# Altium integrated library Renesas Microcontroller H8S.IntLib: 670 symbols (part 5 of 70)
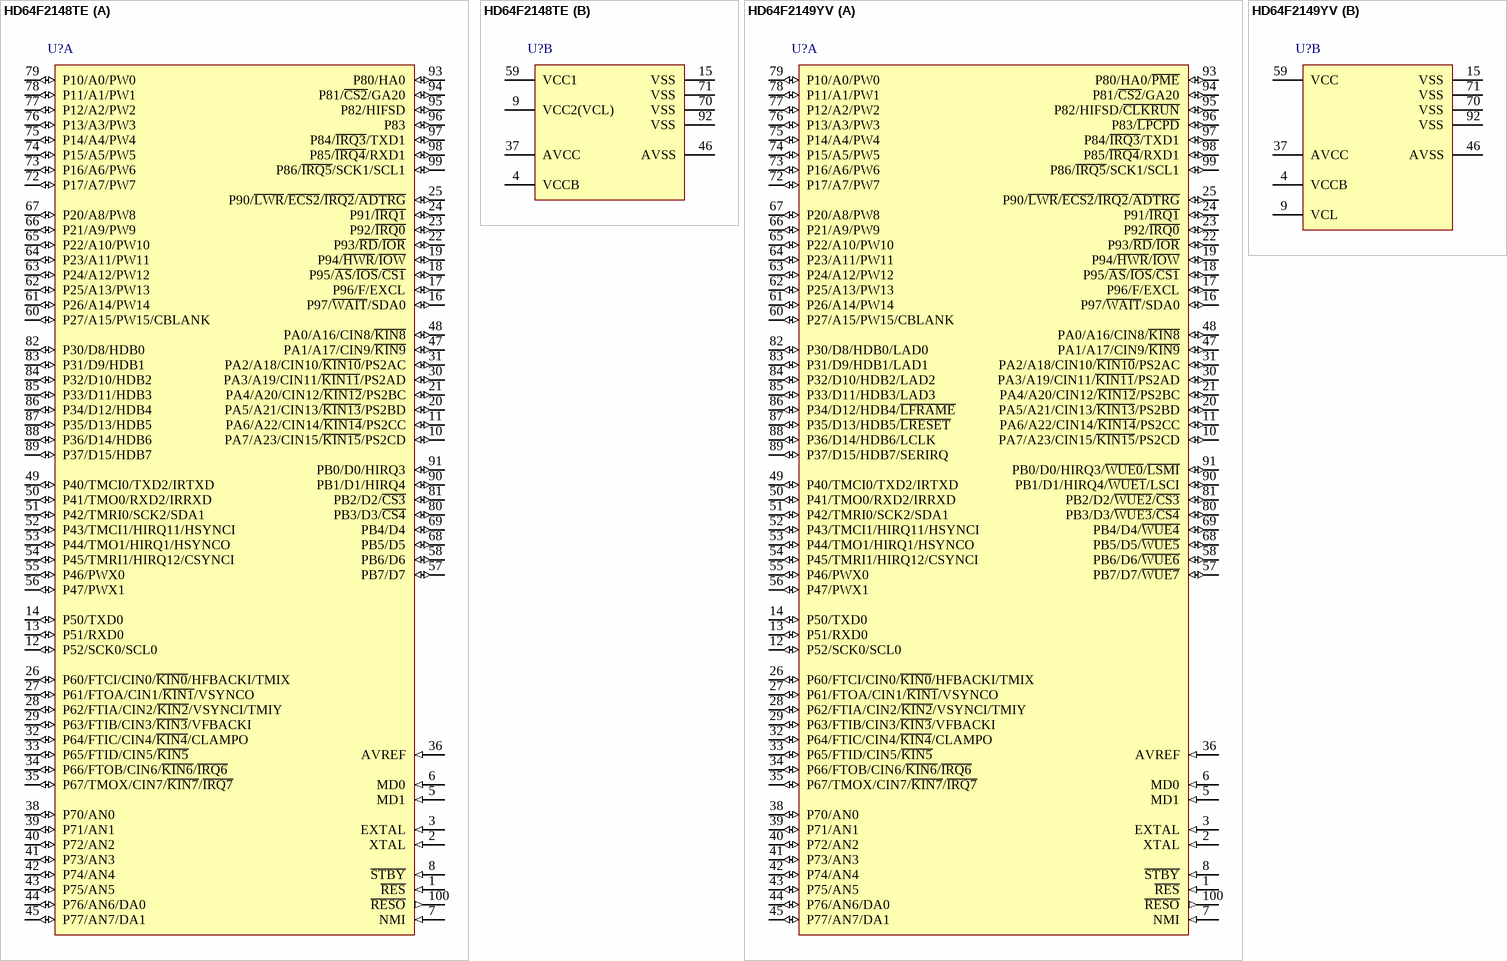
[diagram p247: symbols HD64F2148TE to HD64F2149YV]

## HD64F2148TE
designator U?
Flash memory H8S/2100 Series, 2148 Group MCU, 128K ROM, 4K RAM, TFP-100B Pkg; Published: 28-Aug-2009; DatasheetVersion: Rev.4.00, Sep-2006; PackageVersion: Sep-2005; PackageReference: PTQP0100KA-A; Publisher: Altium Limited; PackageDescription: 100-Pin Plastic Thin Quad Flat Pack, 14 x 14 x 1.0 mm Body, 0.5 mm Pitch; Code_JEITA: P-TQFP100-14x14-0.50; ComponentLink1Description: Manufacturer Link; ComponentLink1URL: http://sg.renesas.com/fmwk.jsp?cnt=h8s_family_landing.jsp&fp=/products/mpumcu/h8s_family/; ComponentLink2Description: Datasheet; ComponentLink2URL: http://documentation.renesas.com/eng/products/mpumcu/rej09b0327_2148hm.pdf; ComponentLink3Description: Packaging Specification; ComponentLink3URL: http://sg.renesas.com/media/products/common_info/package/pdf/ic/code/ptqp0100ka_a.pdf
footprint PTQP0100KA-A_N (Thin QFP, 100-Leads, Body 14x14mm, Pitch 0.5mm, IPC Medium Density)
footprint PTQP0100KA-A_L (Thin QFP, 100-Leads, Body 14x14mm, Pitch 0.5mm, IPC High Density)
footprint PTQP0100KA-A_M (Thin QFP, 100-Leads, Body 14x14mm, Pitch 0.5mm, IPC Low Density)
part A pins: 1 ~{RES} (in), 2 XTAL (in), 3 EXTAL (in), 5 MD1 (in), 6 MD0 (in), 7 NMI (in), 8 ~{STBY} (in), 10 PA7/A23/CIN15/~{KIN15}/PS2CD (io), 11 PA6/A22/CIN14/~{KIN14}/PS2CC (io), 12 P52/SCK0/SCL0 (io), 13 P51/RXD0 (io), 14 P50/TXD0 (io), 16 P97/~{WAIT}/SDA0 (io), 17 P96/F/EXCL (io), 18 P95/~{AS}/~{IOS}/~{CS1} (io), 19 P94/~{HWR}/~{IOW} (io), 20 PA5/A21/CIN13/~{KIN13}/PS2BD (io), 21 PA4/A20/CIN12/~{KIN12}/PS2BC (io), 22 P93/~{RD}/~{IOR} (io), 23 P92/~{IRQ0} (io), 24 P91/~{IRQ1} (io), 25 P90/~{LWR}/~{ECS2}/~{IRQ2}/~{ADTRG} (io), 26 P60/FTCI/CIN0/~{KIN0}/HFBACKI/TMIX (io), 27 P61/FTOA/CIN1/~{KIN1}/VSYNCO (io), 28 P62/FTIA/CIN2/~{KIN2}/VSYNCI/TMIY (io), 29 P63/FTIB/CIN3/~{KIN3}/VFBACKI (io), 30 PA3/A19/CIN11/~{KIN11}/PS2AD (io), 31 PA2/A18/CIN10/~{KIN10}/PS2AC (io), 32 P64/FTIC/CIN4/~{KIN4}/CLAMPO (io), 33 P65/FTID/CIN5/~{KIN5} (io), 34 P66/FTOB/CIN6/~{KIN6}/~{IRQ6} (io), 35 P67/TMOX/CIN7/~{KIN7}/~{IRQ7} (io), 36 AVREF (in), 38 P70/AN0 (io), 39 P71/AN1 (io), 40 P72/AN2 (io), 41 P73/AN3 (io), 42 P74/AN4 (io), 43 P75/AN5 (io), 44 P76/AN6/DA0 (io), 45 P77/AN7/DA1 (io), 47 PA1/A17/CIN9/~{KIN9} (io), 48 PA0/A16/CIN8/~{KIN8} (io), 49 P40/TMCI0/TXD2/IRTXD (io), 50 P41/TMO0/RXD2/IRRXD (io), 51 P42/TMRI0/SCK2/SDA1 (io), 52 P43/TMCI1/HIRQ11/HSYNCI (io), 53 P44/TMO1/HIRQ1/HSYNCO (io), 54 P45/TMRI1/HIRQ12/CSYNCI (io), 55 P46/PWX0 (io), 56 P47/PWX1 (io), 57 PB7/D7 (io), 58 PB6/D6 (io), 60 P27/A15/PW15/CBLANK (io), 61 P26/A14/PW14 (io), 62 P25/A13/PW13 (io), 63 P24/A12/PW12 (io), 64 P23/A11/PW11 (io), 65 P22/A10/PW10 (io), 66 P21/A9/PW9 (io), 67 P20/A8/PW8 (io), 68 PB5/D5 (io), 69 PB4/D4 (io), 72 P17/A7/PW7 (io), 73 P16/A6/PW6 (io), 74 P15/A5/PW5 (io), 75 P14/A4/PW4 (io), 76 P13/A3/PW3 (io), 77 P12/A2/PW2 (io), 78 P11/A1/PW1 (io), 79 P10/A0/PW0 (io), 80 PB3/D3/~{CS4} (io), 81 PB2/D2/~{CS3} (io), 82 P30/D8/HDB0 (io), 83 P31/D9/HDB1 (io), 84 P32/D10/HDB2 (io), 85 P33/D11/HDB3 (io), 86 P34/D12/HDB4 (io), 87 P35/D13/HDB5 (io), 88 P36/D14/HDB6 (io), 89 P37/D15/HDB7 (io), 90 PB1/D1/HIRQ4 (io), 91 PB0/D0/HIRQ3 (io), 93 P80/HA0 (io), 94 P81/~{CS2}/GA20 (io), 95 P82/HIFSD (io), 96 P83 (io), 97 P84/~{IRQ3}/TXD1 (io), 98 P85/~{IRQ4}/RXD1 (io), 99 P86/~{IRQ5}/SCK1/SCL1 (io), 100 ~{RESO} (out)
part B pins: 4 VCCB (power), 9 VCC2(VCL), 15 VSS (power), 37 AVCC (power), 46 AVSS (power), 59 VCC1 (power), 70 VSS (power), 71 VSS (power), 92 VSS (power)

## HD64F2149YV
designator U?
Flash memory H8S/2100 Series, 2149 Group MCU, 64K ROM, 2K RAM, FP-100B Pkg; Published: 28-Aug-2009; DatasheetVersion: Rev.3.00, Jan-2006; PackageVersion: Sep-2009; PackageReference: PRQP0100KA-A; Publisher: Altium Limited; PackageDescription: 100-Pin Plastic Quad Flat Pack, 14 x 14 x 2.7 mm Body, 0.5 mm Pitch; Code_JEITA: P-QFP100-14x14-0.50; ComponentLink1Description: Manufacturer Link; ComponentLink1URL: http://sg.renesas.com/fmwk.jsp?cnt=h8s_family_landing.jsp&fp=/products/mpumcu/h8s_family/; ComponentLink2Description: Datasheet; ComponentLink2URL: http://documentation.renesas.com/eng/products/mpumcu/rej09b0280_2169fhm.pdf; ComponentLink3Description: Packaging Specification; ComponentLink3URL: http://sg.renesas.com/media/products/common_info/package/pdf/ic/code/prqp0100ka_a.pdf
footprint PRQP0100KA-A_N (Shrink QFP, 100-Leads, Body 14x14mm, Pitch 0.5mm, IPC Medium Density)
footprint PRQP0100KA-A_L (Shrink QFP, 100-Leads, Body 14x14mm, Pitch 0.5mm, IPC High Density)
footprint PRQP0100KA-A_M (Shrink QFP, 100-Leads, Body 14x14mm, Pitch 0.5mm, IPC Low Density)
part A pins: 1 ~{RES} (in), 2 XTAL (in), 3 EXTAL (in), 5 MD1 (in), 6 MD0 (in), 7 NMI (in), 8 ~{STBY} (in), 10 PA7/A23/CIN15/~{KIN15}/PS2CD (io), 11 PA6/A22/CIN14/~{KIN14}/PS2CC (io), 12 P52/SCK0/SCL0 (io), 13 P51/RXD0 (io), 14 P50/TXD0 (io), 16 P97/~{WAIT}/SDA0 (io), 17 P96/F/EXCL (io), 18 P95/~{AS}/~{IOS}/~{CS1} (io), 19 P94/~{HWR}/~{IOW} (io), 20 PA5/A21/CIN13/~{KIN13}/PS2BD (io), 21 PA4/A20/CIN12/~{KIN12}/PS2BC (io), 22 P93/~{RD}/~{IOR} (io), 23 P92/~{IRQ0} (io), 24 P91/~{IRQ1} (io), 25 P90/~{LWR}/~{ECS2}/~{IRQ2}/~{ADTRG} (io), 26 P60/FTCI/CIN0/~{KIN0}/HFBACKI/TMIX (io), 27 P61/FTOA/CIN1/~{KIN1}/VSYNCO (io), 28 P62/FTIA/CIN2/~{KIN2}/VSYNCI/TMIY (io), 29 P63/FTIB/CIN3/~{KIN3}/VFBACKI (io), 30 PA3/A19/CIN11/~{KIN11}/PS2AD (io), 31 PA2/A18/CIN10/~{KIN10}/PS2AC (io), 32 P64/FTIC/CIN4/~{KIN4}/CLAMPO (io), 33 P65/FTID/CIN5/~{KIN5} (io), 34 P66/FTOB/CIN6/~{KIN6}/~{IRQ6} (io), 35 P67/TMOX/CIN7/~{KIN7}/~{IRQ7} (io), 36 AVREF (in), 38 P70/AN0 (io), 39 P71/AN1 (io), 40 P72/AN2 (io), 41 P73/AN3 (io), 42 P74/AN4 (io), 43 P75/AN5 (io), 44 P76/AN6/DA0 (io), 45 P77/AN7/DA1 (io), 47 PA1/A17/CIN9/~{KIN9} (io), 48 PA0/A16/CIN8/~{KIN8} (io), 49 P40/TMCI0/TXD2/IRTXD (io), 50 P41/TMO0/RXD2/IRRXD (io), 51 P42/TMRI0/SCK2/SDA1 (io), 52 P43/TMCI1/HIRQ11/HSYNCI (io), 53 P44/TMO1/HIRQ1/HSYNCO (io), 54 P45/TMRI1/HIRQ12/CSYNCI (io), 55 P46/PWX0 (io), 56 P47/PWX1 (io), 57 PB7/D7/~{WUE7} (io), 58 PB6/D6/~{WUE6} (io), 60 P27/A15/PW15/CBLANK (io), 61 P26/A14/PW14 (io), 62 P25/A13/PW13 (io), 63 P24/A12/PW12 (io), 64 P23/A11/PW11 (io), 65 P22/A10/PW10 (io), 66 P21/A9/PW9 (io), 67 P20/A8/PW8 (io), 68 PB5/D5/~{WUE5} (io), 69 PB4/D4/~{WUE4} (io), 72 P17/A7/PW7 (io), 73 P16/A6/PW6 (io), 74 P15/A5/PW5 (io), 75 P14/A4/PW4 (io), 76 P13/A3/PW3 (io), 77 P12/A2/PW2 (io), 78 P11/A1/PW1 (io), 79 P10/A0/PW0 (io), 80 PB3/D3/~{WUE3}/~{CS4} (io), 81 PB2/D2/~{WUE2}/~{CS3} (io), 82 P30/D8/HDB0/LAD0 (io), 83 P31/D9/HDB1/LAD1 (io), 84 P32/D10/HDB2/LAD2 (io), 85 P33/D11/HDB3/LAD3 (io), 86 P34/D12/HDB4/~{LFRAME} (io), 87 P35/D13/HDB5/~{LRESET} (io), 88 P36/D14/HDB6/LCLK (io), 89 P37/D15/HDB7/SERIRQ (io), 90 PB1/D1/HIRQ4/~{WUE1}/LSCI (io), 91 PB0/D0/HIRQ3/~{WUE0}/~{LSMI} (io), 93 P80/HA0/~{PME} (io), 94 P81/~{CS2}/GA20 (io), 95 P82/HIFSD/~{CLKRUN} (io), 96 P83/~{LPCPD} (io), 97 P84/~{IRQ3}/TXD1 (io), 98 P85/~{IRQ4}/RXD1 (io), 99 P86/~{IRQ5}/SCK1/SCL1 (io), 100 ~{RESO} (out)
part B pins: 4 VCCB (power), 9 VCL, 15 VSS (power), 37 AVCC (power), 46 AVSS (power), 59 VCC (power), 70 VSS (power), 71 VSS (power), 92 VSS (power)

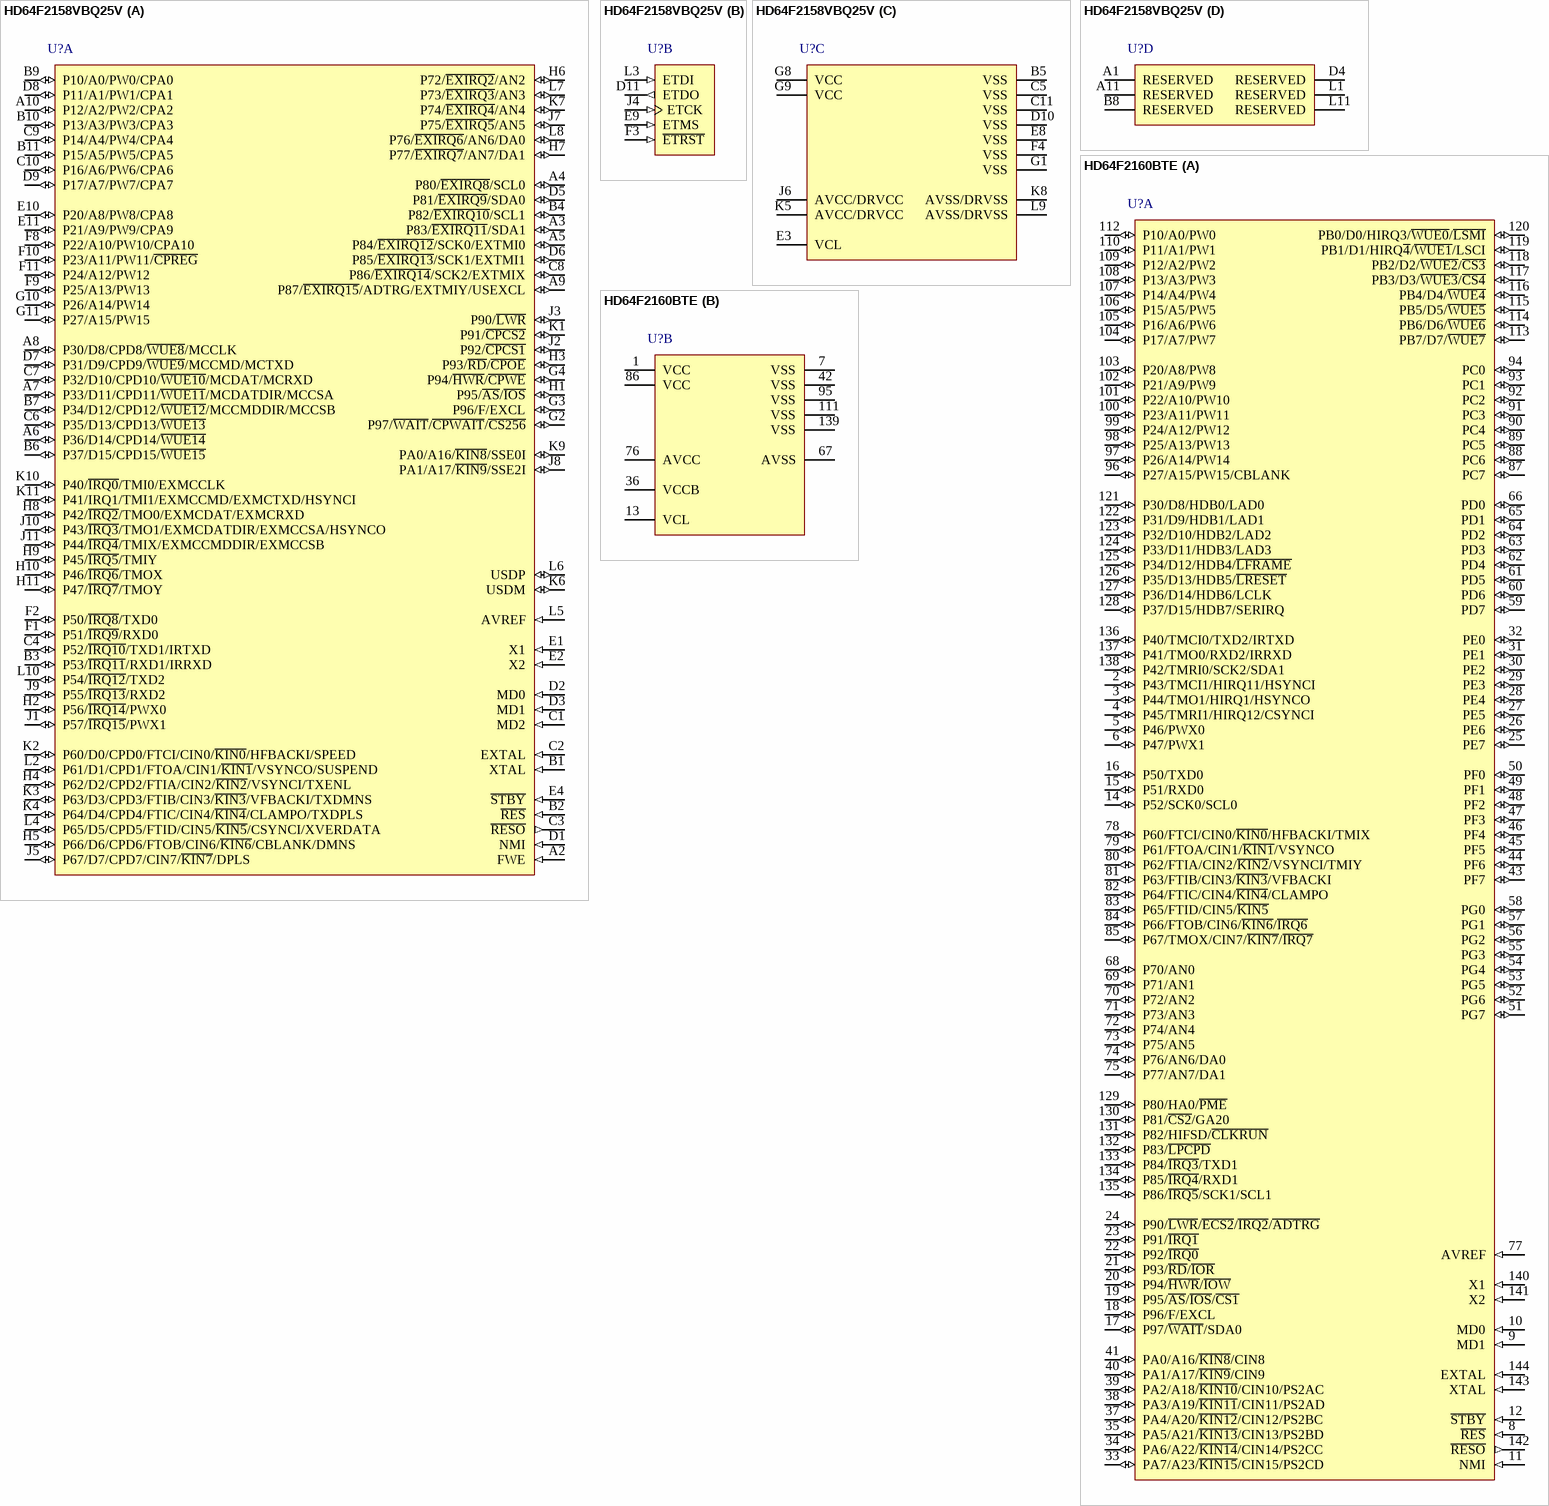
[diagram p17: symbols HD64F2158VBQ25V to HD64F2160BTE]

## HD64F2158VBQ25V
designator U?
Flash memory H8S/2100 Series, 2158 Group MCU, 256K ROM, 10K RAM, TBP-112AV Pkg; Published: 28-Aug-2009; DatasheetVersion: Rev.3.00, Jan-2006; PackageVersion: Sep-2005; PackageReference: TTBG0112GA-A; Publisher: Altium Limited; PackageDescription: 112-Ball Thin Fine Pitch Ball Grid Array, 10 x 10 mm Body, 0.8 mm Pitch; Code_JEITA: T-TFBGA112-10x10-0.80; ComponentLink1Description: Manufacturer Link; ComponentLink1URL: http://sg.renesas.com/fmwk.jsp?cnt=h8s_family_landing.jsp&fp=/products/mpumcu/h8s_family/; ComponentLink2Description: Datasheet; ComponentLink2URL: http://documentation.renesas.com/eng/products/mpumcu/rej09b0286_2158hm.pdf; ComponentLink3Description: Packaging Specification; ComponentLink3URL: http://sg.renesas.com/media/products/common_info/package/pdf/ic/code/ttbg0112ga_a.pdf
footprint TTBG0112GA-A (BGA, 112-Leads, Body 10x10mm, Pitch 0.8mm)
part A pins: A2 FWE (in), A3 P83/~{EXIRQ11}/SDA1 (io), A4 P80/~{EXIRQ8}/SCL0 (io), A5 P84/~{EXIRQ12}/SCK0/EXTMI0 (io), A6 P36/D14/CPD14/~{WUE14} (io), A7 P33/D11/CPD11/~{WUE11}/MCDATDIR/MCCSA (io), A8 P30/D8/CPD8/~{WUE8}/MCCLK (io), A9 P87/~{EXIRQ15}/ADTRG/EXTMIY/USEXCL (io), A10 P12/A2/PW2/CPA2 (io), B1 XTAL (in), B2 ~{RES} (in), B3 P53/~{IRQ11}/RXD1/IRRXD (io), B4 P82/~{EXIRQ10}/SCL1 (io), B6 P37/D15/CPD15/~{WUE15} (io), B7 P34/D12/CPD12/~{WUE12}/MCCMDDIR/MCCSB (io), B9 P10/A0/PW0/CPA0 (io), B10 P13/A3/PW3/CPA3 (io), B11 P15/A5/PW5/CPA5 (io), C1 MD2 (in), C2 EXTAL (in), C3 ~{RESO} (out), C4 P52/~{IRQ10}/TXD1/IRTXD (io), C6 P35/D13/CPD13/~{WUE13} (io), C7 P32/D10/CPD10/~{WUE10}/MCDAT/MCRXD (io), C8 P86/~{EXIRQ14}/SCK2/EXTMIX (io), C9 P14/A4/PW4/CPA4 (io), C10 P16/A6/PW6/CPA6 (io), D1 NMI (in), D2 MD0 (in), D3 MD1 (in), D5 P81/~{EXIRQ9}/SDA0 (io), D6 P85/~{EXIRQ13}/SCK1/EXTMI1 (io), D7 P31/D9/CPD9/~{WUE9}/MCCMD/MCTXD (io), D8 P11/A1/PW1/CPA1 (io), D9 P17/A7/PW7/CPA7 (io), E1 X1 (in), E2 X2 (in), E4 ~{STBY} (in), E10 P20/A8/PW8/CPA8 (io), E11 P21/A9/PW9/CPA9 (io), F1 P51/~{IRQ9}/RXD0 (io), F2 P50/~{IRQ8}/TXD0 (io), F8 P22/A10/PW10/CPA10 (io), F9 P25/A13/PW13 (io), F10 P23/A11/PW11/~{CPREG} (io), F11 P24/A12/PW12 (io), G2 P97/~{WAIT}/~{CPWAIT}/~{CS256} (io), G3 P96/F/EXCL (io), G4 P94/~{HWR}/~{CPWE} (io), G10 P26/A14/PW14 (io), G11 P27/A15/PW15 (io), H1 P95/~{AS}/~{IOS} (io), H2 P56/~{IRQ14}/PWX0 (io), H3 P93/~{RD}/~{CPOE} (io), H4 P62/D2/CPD2/FTIA/CIN2/~{KIN2}/VSYNCI/TXENL (io), H5 P66/D6/CPD6/FTOB/CIN6/~{KIN6}/CBLANK/DMNS (io), H6 P72/~{EXIRQ2}/AN2 (io), H7 P77/~{EXIRQ7}/AN7/DA1 (io), H8 P42/~{IRQ2}/TMO0/EXMCDAT/EXMCRXD (io), H9 P45/~{IRQ5}/TMIY (io), H10 P46/~{IRQ6}/TMOX (io), H11 P47/~{IRQ7}/TMOY (io), J1 P57/~{IRQ15}/PWX1 (io), J2 P92/~{CPCS1} (io), J3 P90/~{LWR} (io), J5 P67/D7/CPD7/CIN7/~{KIN7}/DPLS (io), J7 P75/~{EXIRQ5}/AN5 (io), J8 PA1/A17/~{KIN9}/SSE2I (io), J9 P55/~{IRQ13}/RXD2 (io), J10 P43/~{IRQ3}/TMO1/EXMCDATDIR/EXMCCSA/HSYNCO (io), J11 P44/~{IRQ4}/TMIX/EXMCCMDDIR/EXMCCSB (io), K1 P91/~{CPCS2} (io), K2 P60/D0/CPD0/FTCI/CIN0/~{KIN0}/HFBACKI/SPEED (io), K3 P63/D3/CPD3/FTIB/CIN3/~{KIN3}/VFBACKI/TXDMNS (io), K4 P64/D4/CPD4/FTIC/CIN4/~{KIN4}/CLAMPO/TXDPLS (io), K6 USDM (io), K7 P74/~{EXIRQ4}/AN4 (io), K9 PA0/A16/~{KIN8}/SSE0I (io), K10 P40/~{IRQ0}/TMI0/EXMCCLK (io), K11 P41/IRQ1/TMI1/EXMCCMD/EXMCTXD/HSYNCI (io), L2 P61/D1/CPD1/FTOA/CIN1/~{KIN1}/VSYNCO/SUSPEND (io), L4 P65/D5/CPD5/FTID/CIN5/~{KIN5}/CSYNCI/XVERDATA (io), L5 AVREF (in), L6 USDP (io), L7 P73/~{EXIRQ3}/AN3 (io), L8 P76/~{EXIRQ6}/AN6/DA0 (io), L10 P54/~{IRQ12}/TXD2 (io)
part B pins: D11 ETDO (out), E9 ETMS (in), F3 ~{ETRST} (in), J4 ETCK (in), L3 ETDI (in)
part C pins: B5 VSS (power), C5 VSS (power), C11 VSS (power), D10 VSS (power), E3 VCL, E8 VSS (power), F4 VSS (power), G1 VSS (power), G8 VCC (power), G9 VCC (power), J6 AVCC/DRVCC (power), K5 AVCC/DRVCC (power), K8 AVSS/DRVSS (power), L9 AVSS/DRVSS (power)
part D pins: A1 RESERVED, A11 RESERVED, B8 RESERVED, D4 RESERVED, L1 RESERVED, L11 RESERVED

## HD64F2160BTE
designator U?
Flash memory H8S/2100 Series, 2140B Group MCU, 64K ROM, 4K RAM, TFP-144 Pkg; Published: 28-Aug-2009; DatasheetVersion: Rev.3.00, Mar-2006; PackageVersion: Sep-2005; PackageReference: PTQP0144LC-A; Publisher: Altium Limited; PackageDescription: 144-Pin Plastic Thin Quad Flat Pack, 16 x 16 mm Body, 0.4 mm Pitch; Code_JEITA: P-TQFP144-16x16-0.40; ComponentLink1Description: Manufacturer Link; ComponentLink1URL: http://sg.renesas.com/fmwk.jsp?cnt=h8s_family_landing.jsp&fp=/products/mpumcu/h8s_family/; ComponentLink2Description: Datasheet; ComponentLink2URL: http://documentation.renesas.com/eng/products/mpumcu/rej09b0300_2140bhm.pdf; ComponentLink3Description: Packaging Specification; ComponentLink3URL: http://sg.renesas.com/media/products/common_info/package/pdf/ic/code/ptqp0144lc_a.pdf
footprint PTQP0144LC-A_N (Thin QFP, 144-Leads, Body 16x16mm, Pitch 0.4mm, IPC Medium Density)
footprint PTQP0144LC-A_L (Thin QFP, 144-Leads, Body 16x16mm, Pitch 0.4mm, IPC High Density)
footprint PTQP0144LC-A_M (Thin QFP, 144-Leads, Body 16x16mm, Pitch 0.4mm, IPC Low Density)
part A pins: 2 P43/TMCI1/HIRQ11/HSYNCI (io), 3 P44/TMO1/HIRQ1/HSYNCO (io), 4 P45/TMRI1/HIRQ12/CSYNCI (io), 5 P46/PWX0 (io), 6 P47/PWX1 (io), 8 ~{RES} (in), 9 MD1 (in), 10 MD0 (in), 11 NMI (in), 12 ~{STBY} (in), 14 P52/SCK0/SCL0 (io), 15 P51/RXD0 (io), 16 P50/TXD0 (io), 17 P97/~{WAIT}/SDA0 (io), 18 P96/F/EXCL (io), 19 P95/~{AS}/~{IOS}/~{CS1} (io), 20 P94/~{HWR}/~{IOW} (io), 21 P93/~{RD}/~{IOR} (io), 22 P92/~{IRQ0} (io), 23 P91/~{IRQ1} (io), 24 P90/~{LWR}/~{ECS2}/~{IRQ2}/~{ADTRG} (io), 25 PE7 (io), 26 PE6 (io), 27 PE5 (io), 28 PE4 (io), 29 PE3 (io), 30 PE2 (io), 31 PE1 (io), 32 PE0 (io), 33 PA7/A23/~{KIN15}/CIN15/PS2CD (io), 34 PA6/A22/~{KIN14}/CIN14/PS2CC (io), 35 PA5/A21/~{KIN13}/CIN13/PS2BD (io), 37 PA4/A20/~{KIN12}/CIN12/PS2BC (io), 38 PA3/A19/~{KIN11}/CIN11/PS2AD (io), 39 PA2/A18/~{KIN10}/CIN10/PS2AC (io), 40 PA1/A17/~{KIN9}/CIN9 (io), 41 PA0/A16/~{KIN8}/CIN8 (io), 43 PF7 (io), 44 PF6 (io), 45 PF5 (io), 46 PF4 (io), 47 PF3 (io), 48 PF2 (io), 49 PF1 (io), 50 PF0 (io), 51 PG7 (io), 52 PG6 (io), 53 PG5 (io), 54 PG4 (io), 55 PG3 (io), 56 PG2 (io), 57 PG1 (io), 58 PG0 (io), 59 PD7 (io), 60 PD6 (io), 61 PD5 (io), 62 PD4 (io), 63 PD3 (io), 64 PD2 (io), 65 PD1 (io), 66 PD0 (io), 68 P70/AN0 (io), 69 P71/AN1 (io), 70 P72/AN2 (io), 71 P73/AN3 (io), 72 P74/AN4 (io), 73 P75/AN5 (io), 74 P76/AN6/DA0 (io), 75 P77/AN7/DA1 (io), 77 AVREF (in), 78 P60/FTCI/CIN0/~{KIN0}/HFBACKI/TMIX (io), 79 P61/FTOA/CIN1/~{KIN1}/VSYNCO (io), 80 P62/FTIA/CIN2/~{KIN2}/VSYNCI/TMIY (io), 81 P63/FTIB/CIN3/~{KIN3}/VFBACKI (io), 82 P64/FTIC/CIN4/~{KIN4}/CLAMPO (io), 83 P65/FTID/CIN5/~{KIN5} (io), 84 P66/FTOB/CIN6/~{KIN6}/~{IRQ6} (io), 85 P67/TMOX/CIN7/~{KIN7}/~{IRQ7} (io), 87 PC7 (io), 88 PC6 (io), 89 PC5 (io), 90 PC4 (io), 91 PC3 (io), 92 PC2 (io), 93 PC1 (io), 94 PC0 (io), 96 P27/A15/PW15/CBLANK (io), 97 P26/A14/PW14 (io), 98 P25/A13/PW13 (io), 99 P24/A12/PW12 (io), 100 P23/A11/PW11 (io), 101 P22/A10/PW10 (io), 102 P21/A9/PW9 (io), 103 P20/A8/PW8 (io), 104 P17/A7/PW7 (io), 105 P16/A6/PW6 (io), 106 P15/A5/PW5 (io), 107 P14/A4/PW4 (io), 108 P13/A3/PW3 (io), 109 P12/A2/PW2 (io), 110 P11/A1/PW1 (io), 112 P10/A0/PW0 (io), 113 PB7/D7/~{WUE7} (io), 114 PB6/D6/~{WUE6} (io), 115 PB5/D5/~{WUE5} (io), 116 PB4/D4/~{WUE4} (io), 117 PB3/D3/~{WUE3}/~{CS4} (io), 118 PB2/D2/~{WUE2}/~{CS3} (io), 119 PB1/D1/HIRQ~{4}/~{WUE1}/LSCI (io), 120 PB0/D0/HIRQ3/~{WUE0}/~{LSMI} (io), 121 P30/D8/HDB0/LAD0 (io), 122 P31/D9/HDB1/LAD1 (io), 123 P32/D10/HDB2/LAD2 (io), 124 P33/D11/HDB3/LAD3 (io), 125 P34/D12/HDB4/~{LFRAME} (io), 126 P35/D13/HDB5/~{LRESET} (io), 127 P36/D14/HDB6/LCLK (io), 128 P37/D15/HDB7/SERIRQ (io), 129 P80/HA0/~{PME} (io), 130 P81/~{CS2}/GA20 (io), 131 P82/HIFSD/~{CLKRUN} (io), 132 P83/~{LPCPD} (io), 133 P84/~{IRQ3}/TXD1 (io), 134 P85/~{IRQ4}/RXD1 (io), 135 P86/~{IRQ5}/SCK1/SCL1 (io), 136 P40/TMCI0/TXD2/IRTXD (io), 137 P41/TMO0/RXD2/IRRXD (io), 138 P42/TMRI0/SCK2/SDA1 (io), 140 X1 (in), 141 X2 (in), 142 ~{RESO} (out), 143 XTAL (in), 144 EXTAL (in)
part B pins: 1 VCC (power), 7 VSS (power), 13 VCL, 36 VCCB (power), 42 VSS (power), 67 AVSS (power), 76 AVCC (power), 86 VCC (power), 95 VSS (power), 111 VSS (power), 139 VSS (power)

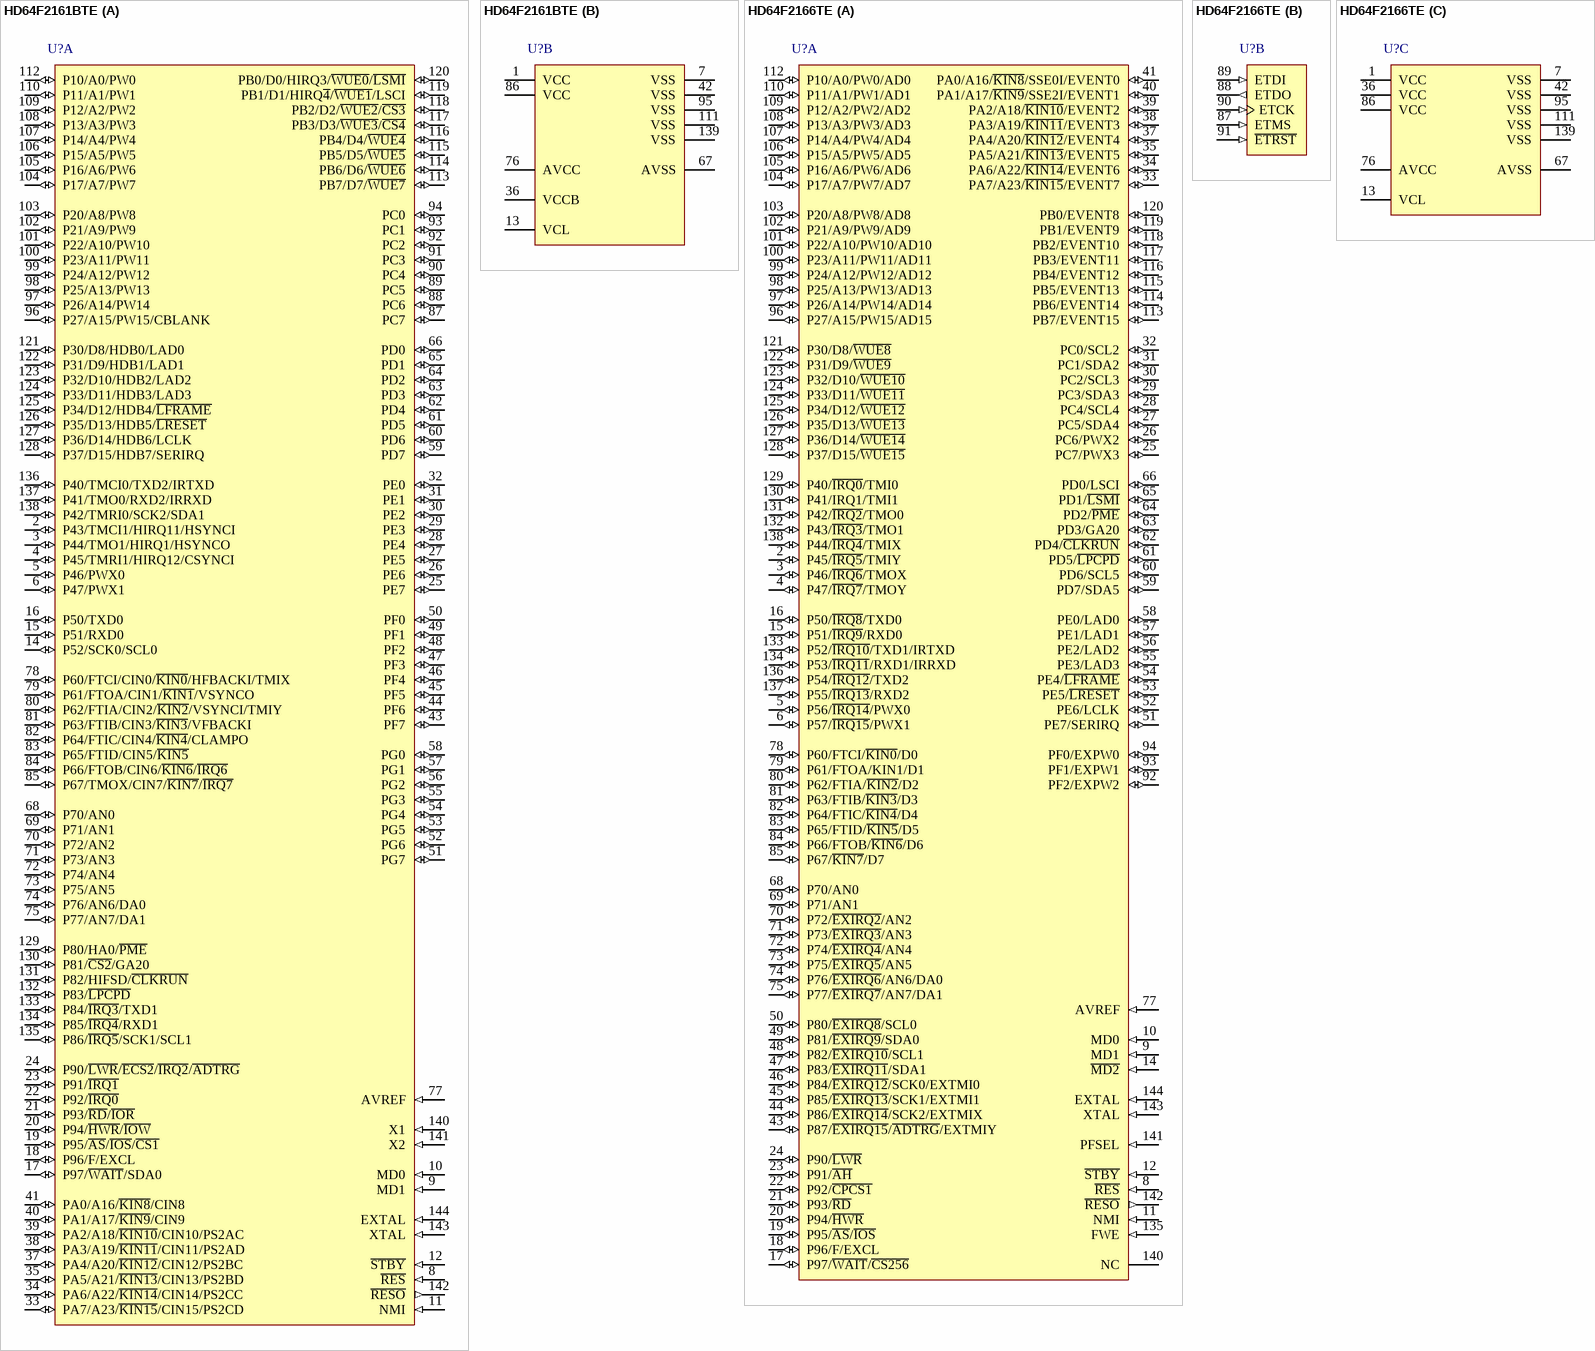
[diagram p18: symbols HD64F2161BTE to HD64F2166TE]

## HD64F2161BTE
designator U?
Flash memory H8S/2100 Series, 2140B Group MCU, 128K ROM, 4K RAM, TFP-144 Pkg; Published: 28-Aug-2009; DatasheetVersion: Rev.3.00, Mar-2006; PackageVersion: Sep-2005; PackageReference: PTQP0144LC-A; Publisher: Altium Limited; PackageDescription: 144-Pin Plastic Thin Quad Flat Pack, 16 x 16 mm Body, 0.4 mm Pitch; Code_JEITA: P-TQFP144-16x16-0.40; ComponentLink1Description: Manufacturer Link; ComponentLink1URL: http://sg.renesas.com/fmwk.jsp?cnt=h8s_family_landing.jsp&fp=/products/mpumcu/h8s_family/; ComponentLink2Description: Datasheet; ComponentLink2URL: http://documentation.renesas.com/eng/products/mpumcu/rej09b0300_2140bhm.pdf; ComponentLink3Description: Packaging Specification; ComponentLink3URL: http://sg.renesas.com/media/products/common_info/package/pdf/ic/code/ptqp0144lc_a.pdf
footprint PTQP0144LC-A_N (Thin QFP, 144-Leads, Body 16x16mm, Pitch 0.4mm, IPC Medium Density)
footprint PTQP0144LC-A_L (Thin QFP, 144-Leads, Body 16x16mm, Pitch 0.4mm, IPC High Density)
footprint PTQP0144LC-A_M (Thin QFP, 144-Leads, Body 16x16mm, Pitch 0.4mm, IPC Low Density)
part A pins: 2 P43/TMCI1/HIRQ11/HSYNCI (io), 3 P44/TMO1/HIRQ1/HSYNCO (io), 4 P45/TMRI1/HIRQ12/CSYNCI (io), 5 P46/PWX0 (io), 6 P47/PWX1 (io), 8 ~{RES} (in), 9 MD1 (in), 10 MD0 (in), 11 NMI (in), 12 ~{STBY} (in), 14 P52/SCK0/SCL0 (io), 15 P51/RXD0 (io), 16 P50/TXD0 (io), 17 P97/~{WAIT}/SDA0 (io), 18 P96/F/EXCL (io), 19 P95/~{AS}/~{IOS}/~{CS1} (io), 20 P94/~{HWR}/~{IOW} (io), 21 P93/~{RD}/~{IOR} (io), 22 P92/~{IRQ0} (io), 23 P91/~{IRQ1} (io), 24 P90/~{LWR}/~{ECS2}/~{IRQ2}/~{ADTRG} (io), 25 PE7 (io), 26 PE6 (io), 27 PE5 (io), 28 PE4 (io), 29 PE3 (io), 30 PE2 (io), 31 PE1 (io), 32 PE0 (io), 33 PA7/A23/~{KIN15}/CIN15/PS2CD (io), 34 PA6/A22/~{KIN14}/CIN14/PS2CC (io), 35 PA5/A21/~{KIN13}/CIN13/PS2BD (io), 37 PA4/A20/~{KIN12}/CIN12/PS2BC (io), 38 PA3/A19/~{KIN11}/CIN11/PS2AD (io), 39 PA2/A18/~{KIN10}/CIN10/PS2AC (io), 40 PA1/A17/~{KIN9}/CIN9 (io), 41 PA0/A16/~{KIN8}/CIN8 (io), 43 PF7 (io), 44 PF6 (io), 45 PF5 (io), 46 PF4 (io), 47 PF3 (io), 48 PF2 (io), 49 PF1 (io), 50 PF0 (io), 51 PG7 (io), 52 PG6 (io), 53 PG5 (io), 54 PG4 (io), 55 PG3 (io), 56 PG2 (io), 57 PG1 (io), 58 PG0 (io), 59 PD7 (io), 60 PD6 (io), 61 PD5 (io), 62 PD4 (io), 63 PD3 (io), 64 PD2 (io), 65 PD1 (io), 66 PD0 (io), 68 P70/AN0 (io), 69 P71/AN1 (io), 70 P72/AN2 (io), 71 P73/AN3 (io), 72 P74/AN4 (io), 73 P75/AN5 (io), 74 P76/AN6/DA0 (io), 75 P77/AN7/DA1 (io), 77 AVREF (in), 78 P60/FTCI/CIN0/~{KIN0}/HFBACKI/TMIX (io), 79 P61/FTOA/CIN1/~{KIN1}/VSYNCO (io), 80 P62/FTIA/CIN2/~{KIN2}/VSYNCI/TMIY (io), 81 P63/FTIB/CIN3/~{KIN3}/VFBACKI (io), 82 P64/FTIC/CIN4/~{KIN4}/CLAMPO (io), 83 P65/FTID/CIN5/~{KIN5} (io), 84 P66/FTOB/CIN6/~{KIN6}/~{IRQ6} (io), 85 P67/TMOX/CIN7/~{KIN7}/~{IRQ7} (io), 87 PC7 (io), 88 PC6 (io), 89 PC5 (io), 90 PC4 (io), 91 PC3 (io), 92 PC2 (io), 93 PC1 (io), 94 PC0 (io), 96 P27/A15/PW15/CBLANK (io), 97 P26/A14/PW14 (io), 98 P25/A13/PW13 (io), 99 P24/A12/PW12 (io), 100 P23/A11/PW11 (io), 101 P22/A10/PW10 (io), 102 P21/A9/PW9 (io), 103 P20/A8/PW8 (io), 104 P17/A7/PW7 (io), 105 P16/A6/PW6 (io), 106 P15/A5/PW5 (io), 107 P14/A4/PW4 (io), 108 P13/A3/PW3 (io), 109 P12/A2/PW2 (io), 110 P11/A1/PW1 (io), 112 P10/A0/PW0 (io), 113 PB7/D7/~{WUE7} (io), 114 PB6/D6/~{WUE6} (io), 115 PB5/D5/~{WUE5} (io), 116 PB4/D4/~{WUE4} (io), 117 PB3/D3/~{WUE3}/~{CS4} (io), 118 PB2/D2/~{WUE2}/~{CS3} (io), 119 PB1/D1/HIRQ~{4}/~{WUE1}/LSCI (io), 120 PB0/D0/HIRQ3/~{WUE0}/~{LSMI} (io), 121 P30/D8/HDB0/LAD0 (io), 122 P31/D9/HDB1/LAD1 (io), 123 P32/D10/HDB2/LAD2 (io), 124 P33/D11/HDB3/LAD3 (io), 125 P34/D12/HDB4/~{LFRAME} (io), 126 P35/D13/HDB5/~{LRESET} (io), 127 P36/D14/HDB6/LCLK (io), 128 P37/D15/HDB7/SERIRQ (io), 129 P80/HA0/~{PME} (io), 130 P81/~{CS2}/GA20 (io), 131 P82/HIFSD/~{CLKRUN} (io), 132 P83/~{LPCPD} (io), 133 P84/~{IRQ3}/TXD1 (io), 134 P85/~{IRQ4}/RXD1 (io), 135 P86/~{IRQ5}/SCK1/SCL1 (io), 136 P40/TMCI0/TXD2/IRTXD (io), 137 P41/TMO0/RXD2/IRRXD (io), 138 P42/TMRI0/SCK2/SDA1 (io), 140 X1 (in), 141 X2 (in), 142 ~{RESO} (out), 143 XTAL (in), 144 EXTAL (in)
part B pins: 1 VCC (power), 7 VSS (power), 13 VCL, 36 VCCB (power), 42 VSS (power), 67 AVSS (power), 76 AVCC (power), 86 VCC (power), 95 VSS (power), 111 VSS (power), 139 VSS (power)

## HD64F2166TE
designator U?
Flash memory H8S/2100 Series, 2168 Group MCU, 512K ROM, 40K RAM, TFP-144 Pkg; Published: 28-Aug-2009; DatasheetVersion: Rev.3.00, Mar-2004; PackageVersion: Sep-2005; PackageReference: PTQP0144LC-A; Publisher: Altium Limited; PackageDescription: 144-Pin Plastic Thin Quad Flat Pack, 16 x 16 mm Body, 0.4 mm Pitch; Code_JEITA: P-TQFP144-16x16-0.40; ComponentLink1Description: Manufacturer Link; ComponentLink1URL: http://sg.renesas.com/fmwk.jsp?cnt=h8s_family_landing.jsp&fp=/products/mpumcu/h8s_family/; ComponentLink2Description: Datasheet; ComponentLink2URL: http://documentation.renesas.com/eng/products/mpumcu/rej09b0078_h8s2168.pdf; ComponentLink3Description: Packaging Specification; ComponentLink3URL: http://sg.renesas.com/media/products/common_info/package/pdf/ic/code/ptqp0144lc_a.pdf
footprint PTQP0144LC-A_N (Thin QFP, 144-Leads, Body 16x16mm, Pitch 0.4mm, IPC Medium Density)
footprint PTQP0144LC-A_L (Thin QFP, 144-Leads, Body 16x16mm, Pitch 0.4mm, IPC High Density)
footprint PTQP0144LC-A_M (Thin QFP, 144-Leads, Body 16x16mm, Pitch 0.4mm, IPC Low Density)
part A pins: 2 P45/~{IRQ5}/TMIY (io), 3 P46/~{IRQ6}/TMOX (io), 4 P47/~{IRQ7}/TMOY (io), 5 P56/~{IRQ14}/PWX0 (io), 6 P57/~{IRQ15}/PWX1 (io), 8 ~{RES} (in), 9 MD1 (in), 10 MD0 (in), 11 NMI (in), 12 ~{STBY} (in), 14 ~{MD2} (in), 15 P51/~{IRQ9}/RXD0 (io), 16 P50/~{IRQ8}/TXD0 (io), 17 P97/~{WAIT}/~{CS256} (io), 18 P96/F/EXCL (io), 19 P95/~{AS}/~{IOS} (io), 20 P94/~{HWR} (io), 21 P93/~{RD} (io), 22 P92/~{CPCS1} (io), 23 P91/~{AH} (io), 24 P90/~{LWR} (io), 25 PC7/PWX3 (io), 26 PC6/PWX2 (io), 27 PC5/SDA4 (io), 28 PC4/SCL4 (io), 29 PC3/SDA3 (io), 30 PC2/SCL3 (io), 31 PC1/SDA2 (io), 32 PC0/SCL2 (io), 33 PA7/A23/~{KIN15}/EVENT7 (io), 34 PA6/A22/~{KIN14}/EVENT6 (io), 35 PA5/A21/~{KIN13}/EVENT5 (io), 37 PA4/A20/~{KIN12}/EVENT4 (io), 38 PA3/A19/~{KIN11}/EVENT3 (io), 39 PA2/A18/~{KIN10}/EVENT2 (io), 40 PA1/A17/~{KIN9}/SSE2I/EVENT1 (io), 41 PA0/A16/~{KIN8}/SSE0I/EVENT0 (io), 43 P87/~{EXIRQ15}/~{ADTRG}/EXTMIY (io), 44 P86/~{EXIRQ14}/SCK2/EXTMIX (io), 45 P85/~{EXIRQ13}/SCK1/EXTMI1 (io), 46 P84/~{EXIRQ12}/SCK0/EXTMI0 (io), 47 P83/~{EXIRQ11}/SDA1 (io), 48 P82/~{EXIRQ10}/SCL1 (io), 49 P81/~{EXIRQ9}/SDA0 (io), 50 P80/~{EXIRQ8}/SCL0 (io), 51 PE7/SERIRQ (io), 52 PE6/LCLK (io), 53 PE5/~{LRESET} (io), 54 PE4/~{LFRAME} (io), 55 PE3/LAD3 (io), 56 PE2/LAD2 (io), 57 PE1/LAD1 (io), 58 PE0/LAD0 (io), 59 PD7/SDA5 (io), 60 PD6/SCL5 (io), 61 PD5/~{LPCPD} (io), 62 PD4/~{CLKRUN} (io), 63 PD3/GA20 (io), 64 PD2/~{PME} (io), 65 PD1/~{LSMI} (io), 66 PD0/LSCI (io), 68 P70/AN0 (io), 69 P71/AN1 (io), 70 P72/~{EXIRQ2}/AN2 (io), 71 P73/~{EXIRQ3}/AN3 (io), 72 P74/~{EXIRQ4}/AN4 (io), 73 P75/~{EXIRQ5}/AN5 (io), 74 P76/~{EXIRQ6}/AN6/DA0 (io), 75 P77/~{EXIRQ7}/AN7/DA1 (io), 77 AVREF (in), 78 P60/FTCI/~{KIN0}/D0 (io), 79 P61/FTOA/KIN1/D1 (io), 80 P62/FTIA/~{KIN2}/D2 (io), 81 P63/FTIB/~{KIN3}/D3 (io), 82 P64/FTIC/~{KIN4}/D4 (io), 83 P65/FTID/~{KIN5}/D5 (io), 84 P66/FTOB/~{KIN6}/D6 (io), 85 P67/~{KIN7}/D7 (io), 92 PF2/EXPW2 (io), 93 PF1/EXPW1 (io), 94 PF0/EXPW0 (io), 96 P27/A15/PW15/AD15 (io), 97 P26/A14/PW14/AD14 (io), 98 P25/A13/PW13/AD13 (io), 99 P24/A12/PW12/AD12 (io), 100 P23/A11/PW11/AD11 (io), 101 P22/A10/PW10/AD10 (io), 102 P21/A9/PW9/AD9 (io), 103 P20/A8/PW8/AD8 (io), 104 P17/A7/PW7/AD7 (io), 105 P16/A6/PW6/AD6 (io), 106 P15/A5/PW5/AD5 (io), 107 P14/A4/PW4/AD4 (io), 108 P13/A3/PW3/AD3 (io), 109 P12/A2/PW2/AD2 (io), 110 P11/A1/PW1/AD1 (io), 112 P10/A0/PW0/AD0 (io), 113 PB7/EVENT15 (io), 114 PB6/EVENT14 (io), 115 PB5/EVENT13 (io), 116 PB4/EVENT12 (io), 117 PB3/EVENT11 (io), 118 PB2/EVENT10 (io), 119 PB1/EVENT9 (io), 120 PB0/EVENT8 (io), 121 P30/D8/~{WUE8} (io), 122 P31/D9/~{WUE9} (io), 123 P32/D10/~{WUE10} (io), 124 P33/D11/~{WUE11} (io), 125 P34/D12/~{WUE12} (io), 126 P35/D13/~{WUE13} (io), 127 P36/D14/~{WUE14} (io), 128 P37/D15/~{WUE15} (io), 129 P40/~{IRQ0}/TMI0 (io), 130 P41/IRQ1/TMI1 (io), 131 P42/~{IRQ2}/TMO0 (io), 132 P43/~{IRQ3}/TMO1 (io), 133 P52/~{IRQ10}/TXD1/IRTXD (io), 134 P53/~{IRQ11}/RXD1/IRRXD (io), 135 FWE (in), 136 P54/~{IRQ12}/TXD2 (io), 137 P55/~{IRQ13}/RXD2 (io), 138 P44/~{IRQ4}/TMIX (io), 140 NC, 141 PFSEL (in), 142 ~{RESO} (out), 143 XTAL (in), 144 EXTAL (in)
part B pins: 87 ETMS (in), 88 ETDO (out), 89 ETDI (in), 90 ETCK (in), 91 ~{ETRST} (in)
part C pins: 1 VCC (power), 7 VSS (power), 13 VCL, 36 VCC (power), 42 VSS (power), 67 AVSS (power), 76 AVCC (power), 86 VCC (power), 95 VSS (power), 111 VSS (power), 139 VSS (power)

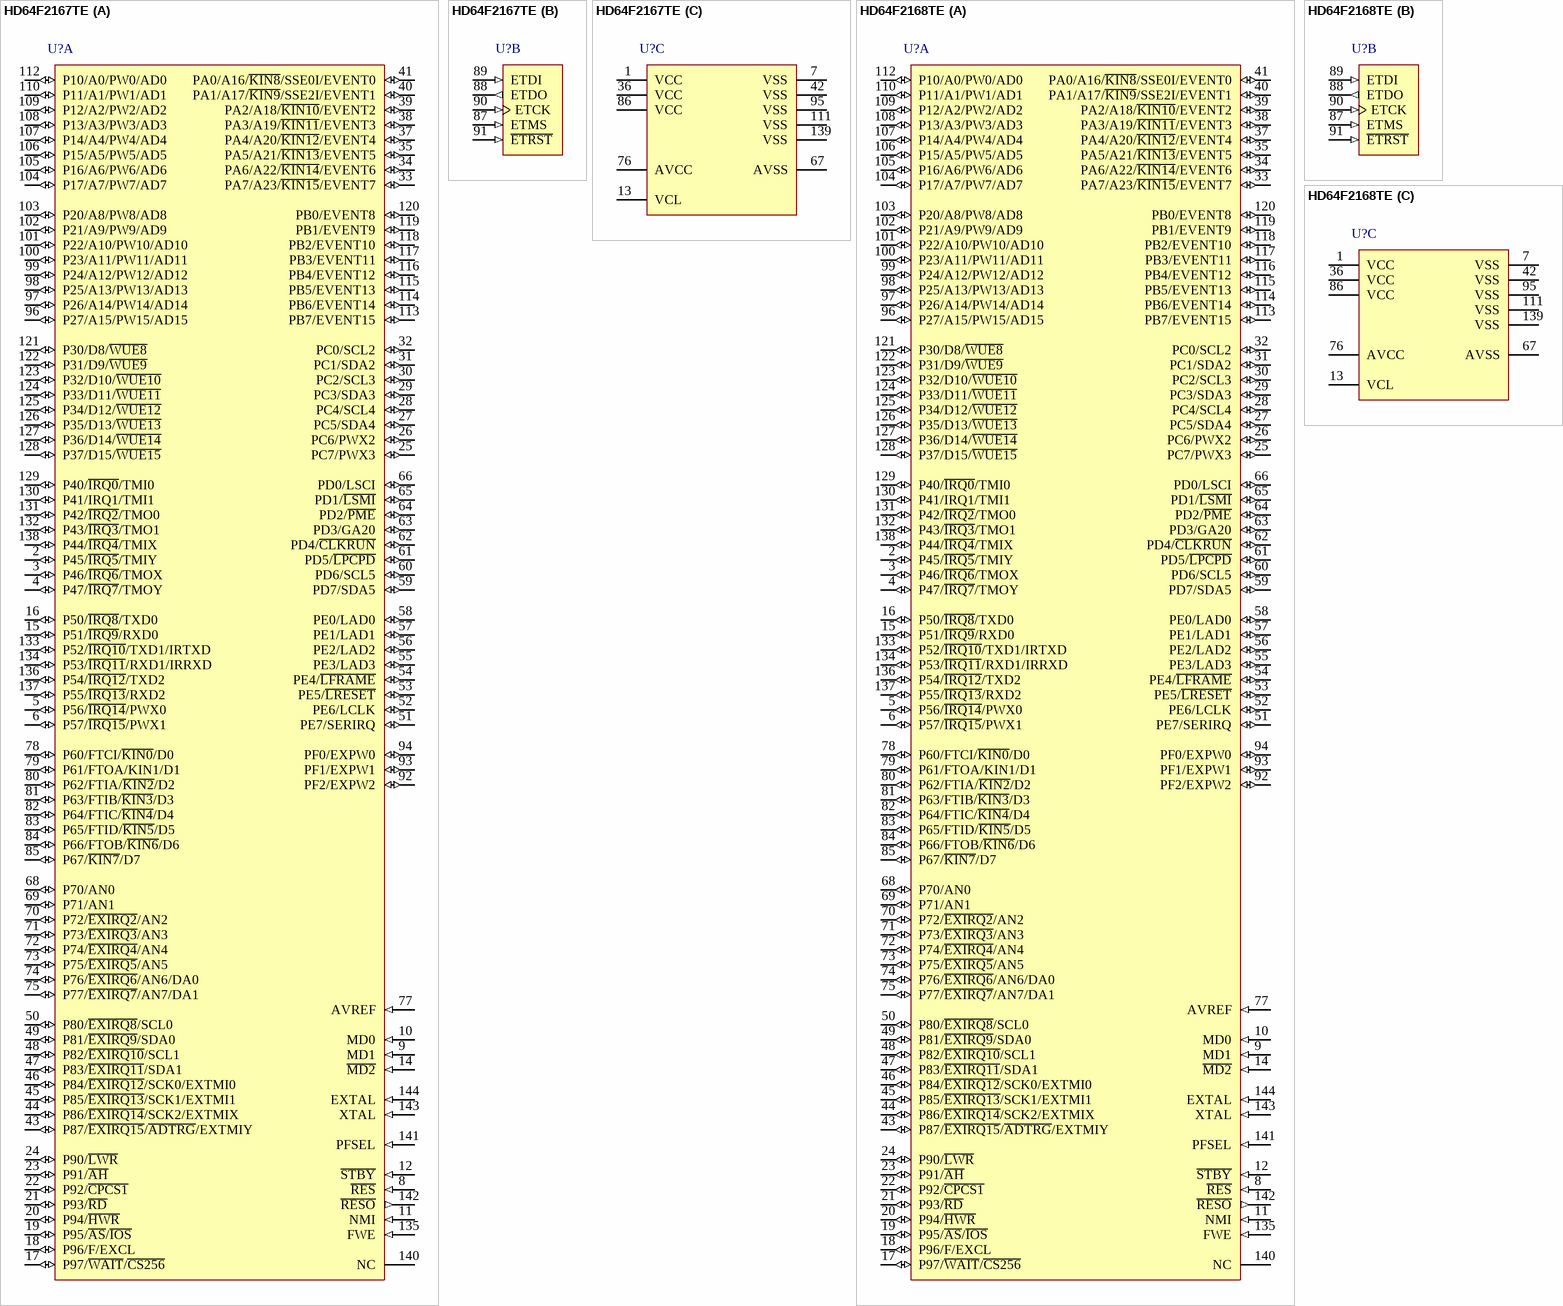
[diagram p19: symbols HD64F2167TE to HD64F2168TE]

## HD64F2167TE
designator U?
Flash memory H8S/2100 Series, 2168 Group MCU, 384K ROM, 40K RAM, TFP-144 Pkg; Published: 28-Aug-2009; DatasheetVersion: Rev.3.00, Mar-2004; PackageVersion: Sep-2005; PackageReference: PTQP0144LC-A; Publisher: Altium Limited; PackageDescription: 144-Pin Plastic Thin Quad Flat Pack, 16 x 16 mm Body, 0.4 mm Pitch; Code_JEITA: P-TQFP144-16x16-0.40; ComponentLink1Description: Manufacturer Link; ComponentLink1URL: http://sg.renesas.com/fmwk.jsp?cnt=h8s_family_landing.jsp&fp=/products/mpumcu/h8s_family/; ComponentLink2Description: Datasheet; ComponentLink2URL: http://documentation.renesas.com/eng/products/mpumcu/rej09b0078_h8s2168.pdf; ComponentLink3Description: Packaging Specification; ComponentLink3URL: http://sg.renesas.com/media/products/common_info/package/pdf/ic/code/ptqp0144lc_a.pdf
footprint PTQP0144LC-A_N (Thin QFP, 144-Leads, Body 16x16mm, Pitch 0.4mm, IPC Medium Density)
footprint PTQP0144LC-A_L (Thin QFP, 144-Leads, Body 16x16mm, Pitch 0.4mm, IPC High Density)
footprint PTQP0144LC-A_M (Thin QFP, 144-Leads, Body 16x16mm, Pitch 0.4mm, IPC Low Density)
part A pins: 2 P45/~{IRQ5}/TMIY (io), 3 P46/~{IRQ6}/TMOX (io), 4 P47/~{IRQ7}/TMOY (io), 5 P56/~{IRQ14}/PWX0 (io), 6 P57/~{IRQ15}/PWX1 (io), 8 ~{RES} (in), 9 MD1 (in), 10 MD0 (in), 11 NMI (in), 12 ~{STBY} (in), 14 ~{MD2} (in), 15 P51/~{IRQ9}/RXD0 (io), 16 P50/~{IRQ8}/TXD0 (io), 17 P97/~{WAIT}/~{CS256} (io), 18 P96/F/EXCL (io), 19 P95/~{AS}/~{IOS} (io), 20 P94/~{HWR} (io), 21 P93/~{RD} (io), 22 P92/~{CPCS1} (io), 23 P91/~{AH} (io), 24 P90/~{LWR} (io), 25 PC7/PWX3 (io), 26 PC6/PWX2 (io), 27 PC5/SDA4 (io), 28 PC4/SCL4 (io), 29 PC3/SDA3 (io), 30 PC2/SCL3 (io), 31 PC1/SDA2 (io), 32 PC0/SCL2 (io), 33 PA7/A23/~{KIN15}/EVENT7 (io), 34 PA6/A22/~{KIN14}/EVENT6 (io), 35 PA5/A21/~{KIN13}/EVENT5 (io), 37 PA4/A20/~{KIN12}/EVENT4 (io), 38 PA3/A19/~{KIN11}/EVENT3 (io), 39 PA2/A18/~{KIN10}/EVENT2 (io), 40 PA1/A17/~{KIN9}/SSE2I/EVENT1 (io), 41 PA0/A16/~{KIN8}/SSE0I/EVENT0 (io), 43 P87/~{EXIRQ15}/~{ADTRG}/EXTMIY (io), 44 P86/~{EXIRQ14}/SCK2/EXTMIX (io), 45 P85/~{EXIRQ13}/SCK1/EXTMI1 (io), 46 P84/~{EXIRQ12}/SCK0/EXTMI0 (io), 47 P83/~{EXIRQ11}/SDA1 (io), 48 P82/~{EXIRQ10}/SCL1 (io), 49 P81/~{EXIRQ9}/SDA0 (io), 50 P80/~{EXIRQ8}/SCL0 (io), 51 PE7/SERIRQ (io), 52 PE6/LCLK (io), 53 PE5/~{LRESET} (io), 54 PE4/~{LFRAME} (io), 55 PE3/LAD3 (io), 56 PE2/LAD2 (io), 57 PE1/LAD1 (io), 58 PE0/LAD0 (io), 59 PD7/SDA5 (io), 60 PD6/SCL5 (io), 61 PD5/~{LPCPD} (io), 62 PD4/~{CLKRUN} (io), 63 PD3/GA20 (io), 64 PD2/~{PME} (io), 65 PD1/~{LSMI} (io), 66 PD0/LSCI (io), 68 P70/AN0 (io), 69 P71/AN1 (io), 70 P72/~{EXIRQ2}/AN2 (io), 71 P73/~{EXIRQ3}/AN3 (io), 72 P74/~{EXIRQ4}/AN4 (io), 73 P75/~{EXIRQ5}/AN5 (io), 74 P76/~{EXIRQ6}/AN6/DA0 (io), 75 P77/~{EXIRQ7}/AN7/DA1 (io), 77 AVREF (in), 78 P60/FTCI/~{KIN0}/D0 (io), 79 P61/FTOA/KIN1/D1 (io), 80 P62/FTIA/~{KIN2}/D2 (io), 81 P63/FTIB/~{KIN3}/D3 (io), 82 P64/FTIC/~{KIN4}/D4 (io), 83 P65/FTID/~{KIN5}/D5 (io), 84 P66/FTOB/~{KIN6}/D6 (io), 85 P67/~{KIN7}/D7 (io), 92 PF2/EXPW2 (io), 93 PF1/EXPW1 (io), 94 PF0/EXPW0 (io), 96 P27/A15/PW15/AD15 (io), 97 P26/A14/PW14/AD14 (io), 98 P25/A13/PW13/AD13 (io), 99 P24/A12/PW12/AD12 (io), 100 P23/A11/PW11/AD11 (io), 101 P22/A10/PW10/AD10 (io), 102 P21/A9/PW9/AD9 (io), 103 P20/A8/PW8/AD8 (io), 104 P17/A7/PW7/AD7 (io), 105 P16/A6/PW6/AD6 (io), 106 P15/A5/PW5/AD5 (io), 107 P14/A4/PW4/AD4 (io), 108 P13/A3/PW3/AD3 (io), 109 P12/A2/PW2/AD2 (io), 110 P11/A1/PW1/AD1 (io), 112 P10/A0/PW0/AD0 (io), 113 PB7/EVENT15 (io), 114 PB6/EVENT14 (io), 115 PB5/EVENT13 (io), 116 PB4/EVENT12 (io), 117 PB3/EVENT11 (io), 118 PB2/EVENT10 (io), 119 PB1/EVENT9 (io), 120 PB0/EVENT8 (io), 121 P30/D8/~{WUE8} (io), 122 P31/D9/~{WUE9} (io), 123 P32/D10/~{WUE10} (io), 124 P33/D11/~{WUE11} (io), 125 P34/D12/~{WUE12} (io), 126 P35/D13/~{WUE13} (io), 127 P36/D14/~{WUE14} (io), 128 P37/D15/~{WUE15} (io), 129 P40/~{IRQ0}/TMI0 (io), 130 P41/IRQ1/TMI1 (io), 131 P42/~{IRQ2}/TMO0 (io), 132 P43/~{IRQ3}/TMO1 (io), 133 P52/~{IRQ10}/TXD1/IRTXD (io), 134 P53/~{IRQ11}/RXD1/IRRXD (io), 135 FWE (in), 136 P54/~{IRQ12}/TXD2 (io), 137 P55/~{IRQ13}/RXD2 (io), 138 P44/~{IRQ4}/TMIX (io), 140 NC, 141 PFSEL (in), 142 ~{RESO} (out), 143 XTAL (in), 144 EXTAL (in)
part B pins: 87 ETMS (in), 88 ETDO (out), 89 ETDI (in), 90 ETCK (in), 91 ~{ETRST} (in)
part C pins: 1 VCC (power), 7 VSS (power), 13 VCL, 36 VCC (power), 42 VSS (power), 67 AVSS (power), 76 AVCC (power), 86 VCC (power), 95 VSS (power), 111 VSS (power), 139 VSS (power)

## HD64F2168TE
designator U?
Flash memory H8S/2100 Series, 2168 Group MCU, 256K ROM, 40K RAM, TFP-144 Pkg; Published: 28-Aug-2009; DatasheetVersion: Rev.3.00, Mar-2004; PackageVersion: Sep-2005; PackageReference: PTQP0144LC-A; Publisher: Altium Limited; PackageDescription: 144-Pin Plastic Thin Quad Flat Pack, 16 x 16 mm Body, 0.4 mm Pitch; Code_JEITA: P-TQFP144-16x16-0.40; ComponentLink1Description: Manufacturer Link; ComponentLink1URL: http://sg.renesas.com/fmwk.jsp?cnt=h8s_family_landing.jsp&fp=/products/mpumcu/h8s_family/; ComponentLink2Description: Datasheet; ComponentLink2URL: http://documentation.renesas.com/eng/products/mpumcu/rej09b0078_h8s2168.pdf; ComponentLink3Description: Packaging Specification; ComponentLink3URL: http://sg.renesas.com/media/products/common_info/package/pdf/ic/code/ptqp0144lc_a.pdf
footprint PTQP0144LC-A_N (Thin QFP, 144-Leads, Body 16x16mm, Pitch 0.4mm, IPC Medium Density)
footprint PTQP0144LC-A_L (Thin QFP, 144-Leads, Body 16x16mm, Pitch 0.4mm, IPC High Density)
footprint PTQP0144LC-A_M (Thin QFP, 144-Leads, Body 16x16mm, Pitch 0.4mm, IPC Low Density)
part A pins: 2 P45/~{IRQ5}/TMIY (io), 3 P46/~{IRQ6}/TMOX (io), 4 P47/~{IRQ7}/TMOY (io), 5 P56/~{IRQ14}/PWX0 (io), 6 P57/~{IRQ15}/PWX1 (io), 8 ~{RES} (in), 9 MD1 (in), 10 MD0 (in), 11 NMI (in), 12 ~{STBY} (in), 14 ~{MD2} (in), 15 P51/~{IRQ9}/RXD0 (io), 16 P50/~{IRQ8}/TXD0 (io), 17 P97/~{WAIT}/~{CS256} (io), 18 P96/F/EXCL (io), 19 P95/~{AS}/~{IOS} (io), 20 P94/~{HWR} (io), 21 P93/~{RD} (io), 22 P92/~{CPCS1} (io), 23 P91/~{AH} (io), 24 P90/~{LWR} (io), 25 PC7/PWX3 (io), 26 PC6/PWX2 (io), 27 PC5/SDA4 (io), 28 PC4/SCL4 (io), 29 PC3/SDA3 (io), 30 PC2/SCL3 (io), 31 PC1/SDA2 (io), 32 PC0/SCL2 (io), 33 PA7/A23/~{KIN15}/EVENT7 (io), 34 PA6/A22/~{KIN14}/EVENT6 (io), 35 PA5/A21/~{KIN13}/EVENT5 (io), 37 PA4/A20/~{KIN12}/EVENT4 (io), 38 PA3/A19/~{KIN11}/EVENT3 (io), 39 PA2/A18/~{KIN10}/EVENT2 (io), 40 PA1/A17/~{KIN9}/SSE2I/EVENT1 (io), 41 PA0/A16/~{KIN8}/SSE0I/EVENT0 (io), 43 P87/~{EXIRQ15}/~{ADTRG}/EXTMIY (io), 44 P86/~{EXIRQ14}/SCK2/EXTMIX (io), 45 P85/~{EXIRQ13}/SCK1/EXTMI1 (io), 46 P84/~{EXIRQ12}/SCK0/EXTMI0 (io), 47 P83/~{EXIRQ11}/SDA1 (io), 48 P82/~{EXIRQ10}/SCL1 (io), 49 P81/~{EXIRQ9}/SDA0 (io), 50 P80/~{EXIRQ8}/SCL0 (io), 51 PE7/SERIRQ (io), 52 PE6/LCLK (io), 53 PE5/~{LRESET} (io), 54 PE4/~{LFRAME} (io), 55 PE3/LAD3 (io), 56 PE2/LAD2 (io), 57 PE1/LAD1 (io), 58 PE0/LAD0 (io), 59 PD7/SDA5 (io), 60 PD6/SCL5 (io), 61 PD5/~{LPCPD} (io), 62 PD4/~{CLKRUN} (io), 63 PD3/GA20 (io), 64 PD2/~{PME} (io), 65 PD1/~{LSMI} (io), 66 PD0/LSCI (io), 68 P70/AN0 (io), 69 P71/AN1 (io), 70 P72/~{EXIRQ2}/AN2 (io), 71 P73/~{EXIRQ3}/AN3 (io), 72 P74/~{EXIRQ4}/AN4 (io), 73 P75/~{EXIRQ5}/AN5 (io), 74 P76/~{EXIRQ6}/AN6/DA0 (io), 75 P77/~{EXIRQ7}/AN7/DA1 (io), 77 AVREF (in), 78 P60/FTCI/~{KIN0}/D0 (io), 79 P61/FTOA/KIN1/D1 (io), 80 P62/FTIA/~{KIN2}/D2 (io), 81 P63/FTIB/~{KIN3}/D3 (io), 82 P64/FTIC/~{KIN4}/D4 (io), 83 P65/FTID/~{KIN5}/D5 (io), 84 P66/FTOB/~{KIN6}/D6 (io), 85 P67/~{KIN7}/D7 (io), 92 PF2/EXPW2 (io), 93 PF1/EXPW1 (io), 94 PF0/EXPW0 (io), 96 P27/A15/PW15/AD15 (io), 97 P26/A14/PW14/AD14 (io), 98 P25/A13/PW13/AD13 (io), 99 P24/A12/PW12/AD12 (io), 100 P23/A11/PW11/AD11 (io), 101 P22/A10/PW10/AD10 (io), 102 P21/A9/PW9/AD9 (io), 103 P20/A8/PW8/AD8 (io), 104 P17/A7/PW7/AD7 (io), 105 P16/A6/PW6/AD6 (io), 106 P15/A5/PW5/AD5 (io), 107 P14/A4/PW4/AD4 (io), 108 P13/A3/PW3/AD3 (io), 109 P12/A2/PW2/AD2 (io), 110 P11/A1/PW1/AD1 (io), 112 P10/A0/PW0/AD0 (io), 113 PB7/EVENT15 (io), 114 PB6/EVENT14 (io), 115 PB5/EVENT13 (io), 116 PB4/EVENT12 (io), 117 PB3/EVENT11 (io), 118 PB2/EVENT10 (io), 119 PB1/EVENT9 (io), 120 PB0/EVENT8 (io), 121 P30/D8/~{WUE8} (io), 122 P31/D9/~{WUE9} (io), 123 P32/D10/~{WUE10} (io), 124 P33/D11/~{WUE11} (io), 125 P34/D12/~{WUE12} (io), 126 P35/D13/~{WUE13} (io), 127 P36/D14/~{WUE14} (io), 128 P37/D15/~{WUE15} (io), 129 P40/~{IRQ0}/TMI0 (io), 130 P41/IRQ1/TMI1 (io), 131 P42/~{IRQ2}/TMO0 (io), 132 P43/~{IRQ3}/TMO1 (io), 133 P52/~{IRQ10}/TXD1/IRTXD (io), 134 P53/~{IRQ11}/RXD1/IRRXD (io), 135 FWE (in), 136 P54/~{IRQ12}/TXD2 (io), 137 P55/~{IRQ13}/RXD2 (io), 138 P44/~{IRQ4}/TMIX (io), 140 NC, 141 PFSEL (in), 142 ~{RESO} (out), 143 XTAL (in), 144 EXTAL (in)
part B pins: 87 ETMS (in), 88 ETDO (out), 89 ETDI (in), 90 ETCK (in), 91 ~{ETRST} (in)
part C pins: 1 VCC (power), 7 VSS (power), 13 VCL, 36 VCC (power), 42 VSS (power), 67 AVSS (power), 76 AVCC (power), 86 VCC (power), 95 VSS (power), 111 VSS (power), 139 VSS (power)

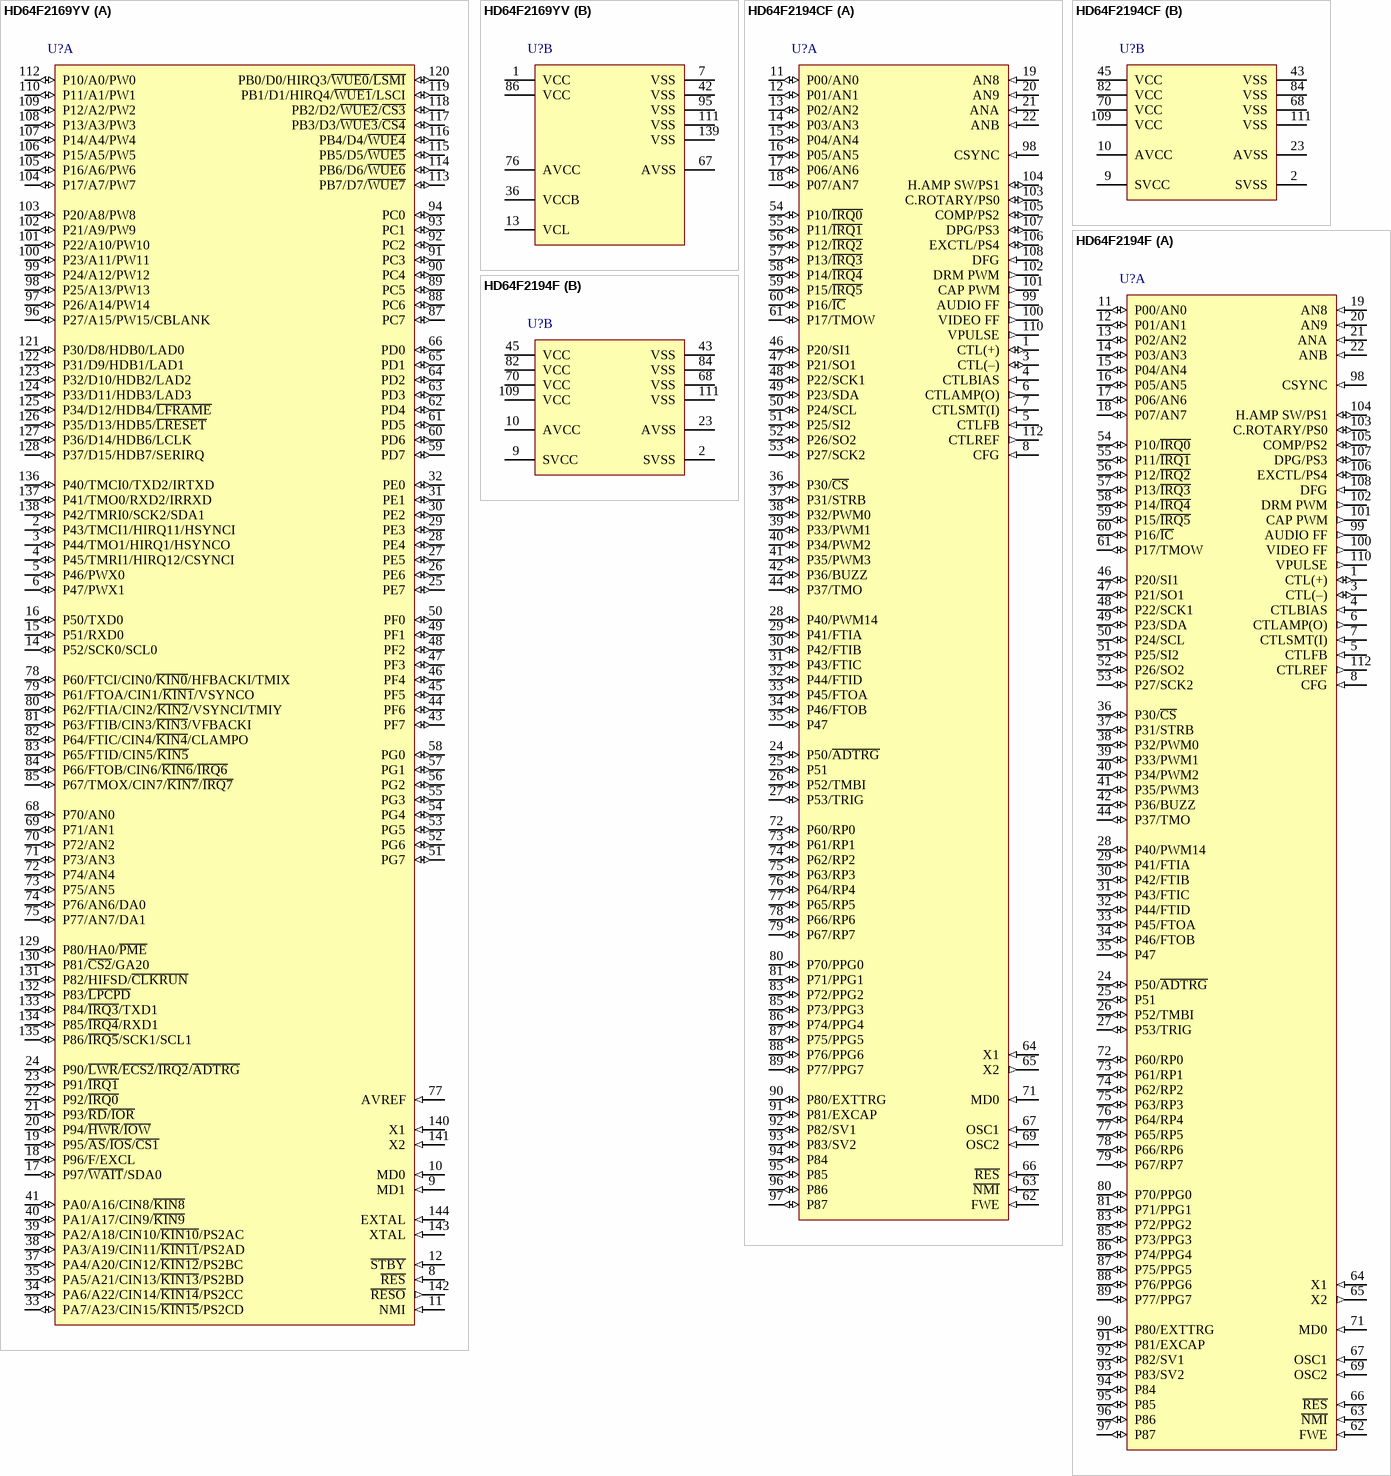
[diagram p20: symbols HD64F2169YV to HD64F2194F]

## HD64F2169YV
designator U?
Flash memory H8S/2100 Series, 2169 Group MCU, 64K ROM, 2K RAM, TFP-144 Pkg; Published: 28-Aug-2009; DatasheetVersion: Rev.3.00, Jan-2006; PackageVersion: Sep-2005; PackageReference: PTQP0144LC-A; Publisher: Altium Limited; PackageDescription: 144-Pin Plastic Thin Quad Flat Pack, 16 x 16 mm Body, 0.4 mm Pitch; Code_JEITA: P-TQFP144-16x16-0.40; ComponentLink1Description: Manufacturer Link; ComponentLink1URL: http://sg.renesas.com/fmwk.jsp?cnt=h8s_family_landing.jsp&fp=/products/mpumcu/h8s_family/; ComponentLink2Description: Datasheet; ComponentLink2URL: http://documentation.renesas.com/eng/products/mpumcu/rej09b0280_2169fhm.pdf; ComponentLink3Description: Packaging Specification; ComponentLink3URL: http://sg.renesas.com/media/products/common_info/package/pdf/ic/code/ptqp0144lc_a.pdf
footprint PTQP0144LC-A_N (Thin QFP, 144-Leads, Body 16x16mm, Pitch 0.4mm, IPC Medium Density)
footprint PTQP0144LC-A_L (Thin QFP, 144-Leads, Body 16x16mm, Pitch 0.4mm, IPC High Density)
footprint PTQP0144LC-A_M (Thin QFP, 144-Leads, Body 16x16mm, Pitch 0.4mm, IPC Low Density)
part A pins: 2 P43/TMCI1/HIRQ11/HSYNCI (io), 3 P44/TMO1/HIRQ1/HSYNCO (io), 4 P45/TMRI1/HIRQ12/CSYNCI (io), 5 P46/PWX0 (io), 6 P47/PWX1 (io), 8 ~{RES} (in), 9 MD1 (in), 10 MD0 (in), 11 NMI (in), 12 ~{STBY} (in), 14 P52/SCK0/SCL0 (io), 15 P51/RXD0 (io), 16 P50/TXD0 (io), 17 P97/~{WAIT}/SDA0 (io), 18 P96/F/EXCL (io), 19 P95/~{AS}/~{IOS}/~{CS1} (io), 20 P94/~{HWR}/~{IOW} (io), 21 P93/~{RD}/~{IOR} (io), 22 P92/~{IRQ0} (io), 23 P91/~{IRQ1} (io), 24 P90/~{LWR}/~{ECS2}/~{IRQ2}/~{ADTRG} (io), 25 PE7 (io), 26 PE6 (io), 27 PE5 (io), 28 PE4 (io), 29 PE3 (io), 30 PE2 (io), 31 PE1 (io), 32 PE0 (io), 33 PA7/A23/CIN15/~{KIN15}/PS2CD (io), 34 PA6/A22/CIN14/~{KIN14}/PS2CC (io), 35 PA5/A21/CIN13/~{KIN13}/PS2BD (io), 37 PA4/A20/CIN12/~{KIN12}/PS2BC (io), 38 PA3/A19/CIN11/~{KIN11}/PS2AD (io), 39 PA2/A18/CIN10/~{KIN10}/PS2AC (io), 40 PA1/A17/CIN9/~{KIN9} (io), 41 PA0/A16/CIN8/~{KIN8} (io), 43 PF7 (io), 44 PF6 (io), 45 PF5 (io), 46 PF4 (io), 47 PF3 (io), 48 PF2 (io), 49 PF1 (io), 50 PF0 (io), 51 PG7 (io), 52 PG6 (io), 53 PG5 (io), 54 PG4 (io), 55 PG3 (io), 56 PG2 (io), 57 PG1 (io), 58 PG0 (io), 59 PD7 (io), 60 PD6 (io), 61 PD5 (io), 62 PD4 (io), 63 PD3 (io), 64 PD2 (io), 65 PD1 (io), 66 PD0 (io), 68 P70/AN0 (io), 69 P71/AN1 (io), 70 P72/AN2 (io), 71 P73/AN3 (io), 72 P74/AN4 (io), 73 P75/AN5 (io), 74 P76/AN6/DA0 (io), 75 P77/AN7/DA1 (io), 77 AVREF (in), 78 P60/FTCI/CIN0/~{KIN0}/HFBACKI/TMIX (io), 79 P61/FTOA/CIN1/~{KIN1}/VSYNCO (io), 80 P62/FTIA/CIN2/~{KIN2}/VSYNCI/TMIY (io), 81 P63/FTIB/CIN3/~{KIN3}/VFBACKI (io), 82 P64/FTIC/CIN4/~{KIN4}/CLAMPO (io), 83 P65/FTID/CIN5/~{KIN5} (io), 84 P66/FTOB/CIN6/~{KIN6}/~{IRQ6} (io), 85 P67/TMOX/CIN7/~{KIN7}/~{IRQ7} (io), 87 PC7 (io), 88 PC6 (io), 89 PC5 (io), 90 PC4 (io), 91 PC3 (io), 92 PC2 (io), 93 PC1 (io), 94 PC0 (io), 96 P27/A15/PW15/CBLANK (io), 97 P26/A14/PW14 (io), 98 P25/A13/PW13 (io), 99 P24/A12/PW12 (io), 100 P23/A11/PW11 (io), 101 P22/A10/PW10 (io), 102 P21/A9/PW9 (io), 103 P20/A8/PW8 (io), 104 P17/A7/PW7 (io), 105 P16/A6/PW6 (io), 106 P15/A5/PW5 (io), 107 P14/A4/PW4 (io), 108 P13/A3/PW3 (io), 109 P12/A2/PW2 (io), 110 P11/A1/PW1 (io), 112 P10/A0/PW0 (io), 113 PB7/D7/~{WUE7} (io), 114 PB6/D6/~{WUE6} (io), 115 PB5/D5/~{WUE5} (io), 116 PB4/D4/~{WUE4} (io), 117 PB3/D3/~{WUE3}/~{CS4} (io), 118 PB2/D2/~{WUE2}/~{CS3} (io), 119 PB1/D1/HIRQ4/~{WUE1}/LSCI (io), 120 PB0/D0/HIRQ3/~{WUE0}/~{LSMI} (io), 121 P30/D8/HDB0/LAD0 (io), 122 P31/D9/HDB1/LAD1 (io), 123 P32/D10/HDB2/LAD2 (io), 124 P33/D11/HDB3/LAD3 (io), 125 P34/D12/HDB4/~{LFRAME} (io), 126 P35/D13/HDB5/~{LRESET} (io), 127 P36/D14/HDB6/LCLK (io), 128 P37/D15/HDB7/SERIRQ (io), 129 P80/HA0/~{PME} (io), 130 P81/~{CS2}/GA20 (io), 131 P82/HIFSD/~{CLKRUN} (io), 132 P83/~{LPCPD} (io), 133 P84/~{IRQ3}/TXD1 (io), 134 P85/~{IRQ4}/RXD1 (io), 135 P86/~{IRQ5}/SCK1/SCL1 (io), 136 P40/TMCI0/TXD2/IRTXD (io), 137 P41/TMO0/RXD2/IRRXD (io), 138 P42/TMRI0/SCK2/SDA1 (io), 140 X1 (in), 141 X2 (in), 142 ~{RESO} (out), 143 XTAL (in), 144 EXTAL (in)
part B pins: 1 VCC (power), 7 VSS (power), 13 VCL, 36 VCCB (power), 42 VSS (power), 67 AVSS (power), 76 AVCC (power), 86 VCC (power), 95 VSS (power), 111 VSS (power), 139 VSS (power)

## HD64F2194CF
designator U?
Flash memory H8S/2100 Series, 2194 Group MCU, 256K ROM, 6K RAM, FP-112 Pkg; Published: 28-Aug-2009; DatasheetVersion: Rev.3.00, Jan-2007; PackageVersion: Sep-2005; PackageReference: PRQP0112JA-A; Publisher: Altium Limited; PackageDescription: 112-Pin Plastic Quad Flat Pack, 20 x 20 x 2.7 mm Body, 0.65 mm Pitch; Code_JEITA: P-QFP112-20x20-0.65; ComponentLink1Description: Manufacturer Link; ComponentLink1URL: http://sg.renesas.com/fmwk.jsp?cnt=h8s_family_landing.jsp&fp=/products/mpumcu/h8s_family/; ComponentLink2Description: Datasheet; ComponentLink2URL: http://documentation.renesas.com/eng/products/mpumcu/rej09b0328_2194hm.pdf; ComponentLink3Description: Packaging Specification; ComponentLink3URL: http://sg.renesas.com/media/products/common_info/package/pdf/ic/code/prqp0112ja_a.pdf
footprint PRQP0112JA-A_N (QFP, 112-Leads, Body 20x20mm, Pitch 0.65mm, IPC Medium Density)
footprint PRQP0112JA-A_L (QFP, 112-Leads, Body 20x20mm, Pitch 0.65mm, IPC High Density)
footprint PRQP0112JA-A_M (QFP, 112-Leads, Body 20x20mm, Pitch 0.65mm, IPC Low Density)
part A pins: 1 CTL(+) (io), 3 CTL(–) (io), 4 CTLBIAS (in), 5 CTLFB (in), 6 CTLAMP(O) (out), 7 CTLSMT(I) (in), 8 CFG (in), 11 P00/AN0 (io), 12 P01/AN1 (io), 13 P02/AN2 (io), 14 P03/AN3 (io), 15 P04/AN4 (io), 16 P05/AN5 (io), 17 P06/AN6 (io), 18 P07/AN7 (io), 19 AN8 (in), 20 AN9 (in), 21 ANA (in), 22 ANB (in), 24 P50/~{ADTRG} (io), 25 P51 (io), 26 P52/TMBI (io), 27 P53/TRIG (io), 28 P40/PWM14 (io), 29 P41/FTIA (io), 30 P42/FTIB (io), 31 P43/FTIC (io), 32 P44/FTID (io), 33 P45/FTOA (io), 34 P46/FTOB (io), 35 P47 (io), 36 P30/~{CS} (io), 37 P31/STRB (io), 38 P32/PWM0 (io), 39 P33/PWM1 (io), 40 P34/PWM2 (io), 41 P35/PWM3 (io), 42 P36/BUZZ (io), 44 P37/TMO (io), 46 P20/SI1 (io), 47 P21/SO1 (io), 48 P22/SCK1 (io), 49 P23/SDA (io), 50 P24/SCL (io), 51 P25/SI2 (io), 52 P26/SO2 (io), 53 P27/SCK2 (io), 54 P10/~{IRQ0} (io), 55 P11/~{IRQ1} (io), 56 P12/~{IRQ2} (io), 57 P13/~{IRQ3} (io), 58 P14/~{IRQ4} (io), 59 P15/~{IRQ5} (io), 60 P16/~{IC} (io), 61 P17/TMOW (io), 62 FWE (in), 63 ~{NMI} (in), 64 X1 (in), 65 X2 (out), 66 ~{RES} (in), 67 OSC1 (in), 69 OSC2 (in), 71 MD0 (in), 72 P60/RP0 (io), 73 P61/RP1 (io), 74 P62/RP2 (io), 75 P63/RP3 (io), 76 P64/RP4 (io), 77 P65/RP5 (io), 78 P66/RP6 (io), 79 P67/RP7 (io), 80 P70/PPG0 (io), 81 P71/PPG1 (io), 83 P72/PPG2 (io), 85 P73/PPG3 (io), 86 P74/PPG4 (io), 87 P75/PPG5 (io), 88 P76/PPG6 (io), 89 P77/PPG7 (io), 90 P80/EXTTRG (io), 91 P81/EXCAP (io), 92 P82/SV1 (io), 93 P83/SV2 (io), 94 P84 (io), 95 P85 (io), 96 P86 (io), 97 P87 (io), 98 CSYNC (in), 99 AUDIO FF (out), 100 VIDEO FF (out), 101 CAP PWM (out), 102 DRM PWM (out), 103 C.ROTARY/PS0 (io), 104 H.AMP SW/PS1 (io), 105 COMP/PS2 (io), 106 EXCTL/PS4 (io), 107 DPG/PS3 (io), 108 DFG (in), 110 VPULSE (out), 112 CTLREF (out)
part B pins: 2 SVSS (power), 9 SVCC (power), 10 AVCC (power), 23 AVSS (power), 43 VSS (power), 45 VCC (power), 68 VSS (power), 70 VCC (power), 82 VCC (power), 84 VSS (power), 109 VCC (power), 111 VSS (power)

## HD64F2194F
designator U?
Flash memory H8S/2100 Series, 2194 Group MCU, 128K ROM, 3K RAM, FP-112 Pkg; Published: 28-Aug-2009; DatasheetVersion: Rev.3.00, Jan-2007; PackageVersion: Sep-2005; PackageReference: PRQP0112JA-A; Publisher: Altium Limited; PackageDescription: 112-Pin Plastic Quad Flat Pack, 20 x 20 x 2.7 mm Body, 0.65 mm Pitch; Code_JEITA: P-QFP112-20x20-0.65; ComponentLink1Description: Manufacturer Link; ComponentLink1URL: http://sg.renesas.com/fmwk.jsp?cnt=h8s_family_landing.jsp&fp=/products/mpumcu/h8s_family/; ComponentLink2Description: Datasheet; ComponentLink2URL: http://documentation.renesas.com/eng/products/mpumcu/rej09b0328_2194hm.pdf; ComponentLink3Description: Packaging Specification; ComponentLink3URL: http://sg.renesas.com/media/products/common_info/package/pdf/ic/code/prqp0112ja_a.pdf
footprint PRQP0112JA-A_N (QFP, 112-Leads, Body 20x20mm, Pitch 0.65mm, IPC Medium Density)
footprint PRQP0112JA-A_L (QFP, 112-Leads, Body 20x20mm, Pitch 0.65mm, IPC High Density)
footprint PRQP0112JA-A_M (QFP, 112-Leads, Body 20x20mm, Pitch 0.65mm, IPC Low Density)
part A pins: 1 CTL(+) (io), 3 CTL(–) (io), 4 CTLBIAS (in), 5 CTLFB (in), 6 CTLAMP(O) (out), 7 CTLSMT(I) (in), 8 CFG (in), 11 P00/AN0 (io), 12 P01/AN1 (io), 13 P02/AN2 (io), 14 P03/AN3 (io), 15 P04/AN4 (io), 16 P05/AN5 (io), 17 P06/AN6 (io), 18 P07/AN7 (io), 19 AN8 (in), 20 AN9 (in), 21 ANA (in), 22 ANB (in), 24 P50/~{ADTRG} (io), 25 P51 (io), 26 P52/TMBI (io), 27 P53/TRIG (io), 28 P40/PWM14 (io), 29 P41/FTIA (io), 30 P42/FTIB (io), 31 P43/FTIC (io), 32 P44/FTID (io), 33 P45/FTOA (io), 34 P46/FTOB (io), 35 P47 (io), 36 P30/~{CS} (io), 37 P31/STRB (io), 38 P32/PWM0 (io), 39 P33/PWM1 (io), 40 P34/PWM2 (io), 41 P35/PWM3 (io), 42 P36/BUZZ (io), 44 P37/TMO (io), 46 P20/SI1 (io), 47 P21/SO1 (io), 48 P22/SCK1 (io), 49 P23/SDA (io), 50 P24/SCL (io), 51 P25/SI2 (io), 52 P26/SO2 (io), 53 P27/SCK2 (io), 54 P10/~{IRQ0} (io), 55 P11/~{IRQ1} (io), 56 P12/~{IRQ2} (io), 57 P13/~{IRQ3} (io), 58 P14/~{IRQ4} (io), 59 P15/~{IRQ5} (io), 60 P16/~{IC} (io), 61 P17/TMOW (io), 62 FWE (in), 63 ~{NMI} (in), 64 X1 (in), 65 X2 (out), 66 ~{RES} (in), 67 OSC1 (in), 69 OSC2 (in), 71 MD0 (in), 72 P60/RP0 (io), 73 P61/RP1 (io), 74 P62/RP2 (io), 75 P63/RP3 (io), 76 P64/RP4 (io), 77 P65/RP5 (io), 78 P66/RP6 (io), 79 P67/RP7 (io), 80 P70/PPG0 (io), 81 P71/PPG1 (io), 83 P72/PPG2 (io), 85 P73/PPG3 (io), 86 P74/PPG4 (io), 87 P75/PPG5 (io), 88 P76/PPG6 (io), 89 P77/PPG7 (io), 90 P80/EXTTRG (io), 91 P81/EXCAP (io), 92 P82/SV1 (io), 93 P83/SV2 (io), 94 P84 (io), 95 P85 (io), 96 P86 (io), 97 P87 (io), 98 CSYNC (in), 99 AUDIO FF (out), 100 VIDEO FF (out), 101 CAP PWM (out), 102 DRM PWM (out), 103 C.ROTARY/PS0 (io), 104 H.AMP SW/PS1 (io), 105 COMP/PS2 (io), 106 EXCTL/PS4 (io), 107 DPG/PS3 (io), 108 DFG (in), 110 VPULSE (out), 112 CTLREF (out)
part B pins: 2 SVSS (power), 9 SVCC (power), 10 AVCC (power), 23 AVSS (power), 43 VSS (power), 45 VCC (power), 68 VSS (power), 70 VCC (power), 82 VCC (power), 84 VSS (power), 109 VCC (power), 111 VSS (power)

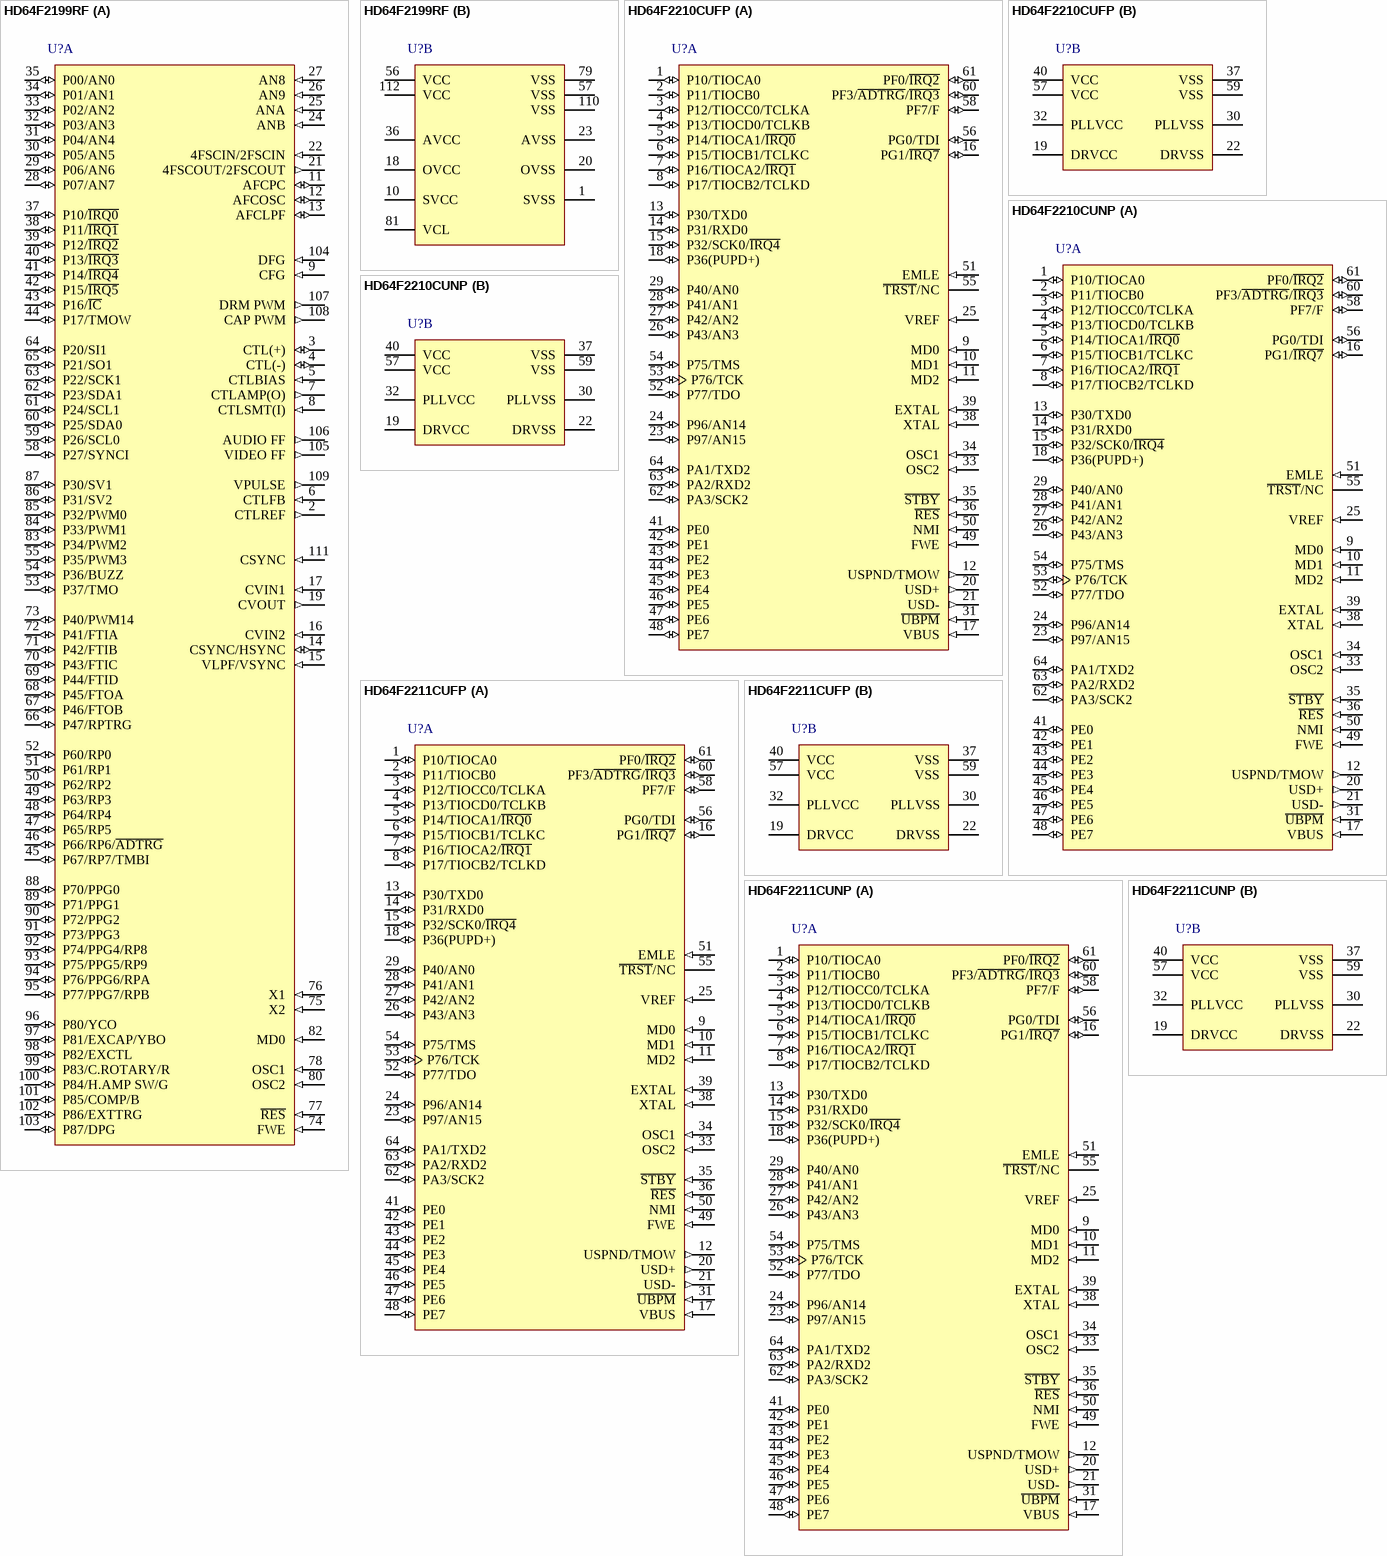
[diagram p21: symbols HD64F2199RF to HD64F2211CUNP]

## HD64F2199RF
designator U?
Flash memory H8S/2100 Series, 2199 Group MCU, 256K ROM, 8K RAM, FP-112 Pkg; Published: 28-Aug-2009; DatasheetVersion: Rev.2.00, Jan-2007; PackageVersion: Sep-2005; PackageReference: PRQP0112JA-A; Publisher: Altium Limited; PackageDescription: 112-Pin Plastic Quad Flat Pack, 20 x 20 x 2.7 mm Body, 0.65 mm Pitch; Code_JEITA: P-QFP112-20x20-0.65; ComponentLink1Description: Manufacturer Link; ComponentLink1URL: http://sg.renesas.com/fmwk.jsp?cnt=h8s_family_landing.jsp&fp=/products/mpumcu/h8s_family/; ComponentLink2Description: Datasheet; ComponentLink2URL: http://documentation.renesas.com/eng/products/mpumcu/rej09b0329_2199rhm.pdf; ComponentLink3Description: Packaging Specification; ComponentLink3URL: http://sg.renesas.com/media/products/common_info/package/pdf/ic/code/prqp0112ja_a.pdf
footprint PRQP0112JA-A_N (QFP, 112-Leads, Body 20x20mm, Pitch 0.65mm, IPC Medium Density)
footprint PRQP0112JA-A_L (QFP, 112-Leads, Body 20x20mm, Pitch 0.65mm, IPC High Density)
footprint PRQP0112JA-A_M (QFP, 112-Leads, Body 20x20mm, Pitch 0.65mm, IPC Low Density)
part A pins: 2 CTLREF (out), 3 CTL(+) (io), 4 CTL(-) (io), 5 CTLBIAS (in), 6 CTLFB (in), 7 CTLAMP(O) (out), 8 CTLSMT(I) (in), 9 CFG (in), 11 AFCPC (io), 12 AFCOSC (io), 13 AFCLPF (io), 14 CSYNC/HSYNC (io), 15 VLPF/VSYNC (in), 16 CVIN2 (in), 17 CVIN1 (in), 19 CVOUT (out), 21 4FSCOUT/2FSCOUT (out), 22 4FSCIN/2FSCIN (in), 24 ANB (in), 25 ANA (in), 26 AN9 (in), 27 AN8 (in), 28 P07/AN7 (io), 29 P06/AN6 (io), 30 P05/AN5 (io), 31 P04/AN4 (io), 32 P03/AN3 (io), 33 P02/AN2 (io), 34 P01/AN1 (io), 35 P00/AN0 (io), 37 P10/~{IRQ0} (io), 38 P11/~{IRQ1} (io), 39 P12/~{IRQ2} (io), 40 P13/~{IRQ3} (io), 41 P14/~{IRQ4} (io), 42 P15/~{IRQ5} (io), 43 P16/~{IC} (io), 44 P17/TMOW (io), 45 P67/RP7/TMBI (io), 46 P66/RP6/~{ADTRG} (io), 47 P65/RP5 (io), 48 P64/RP4 (io), 49 P63/RP3 (io), 50 P62/RP2 (io), 51 P61/RP1 (io), 52 P60/RP0 (io), 53 P37/TMO (io), 54 P36/BUZZ (io), 55 P35/PWM3 (io), 58 P27/SYNCI (io), 59 P26/SCL0 (io), 60 P25/SDA0 (io), 61 P24/SCL1 (io), 62 P23/SDA1 (io), 63 P22/SCK1 (io), 64 P20/SI1 (io), 65 P21/SO1 (io), 66 P47/RPTRG (io), 67 P46/FTOB (io), 68 P45/FTOA (io), 69 P44/FTID (io), 70 P43/FTIC (io), 71 P42/FTIB (io), 72 P41/FTIA (io), 73 P40/PWM14 (io), 74 FWE (in), 75 X2 (in), 76 X1 (in), 77 ~{RES} (in), 78 OSC1 (in), 80 OSC2 (in), 82 MD0 (in), 83 P34/PWM2 (io), 84 P33/PWM1 (io), 85 P32/PWM0 (io), 86 P31/SV2 (io), 87 P30/SV1 (io), 88 P70/PPG0 (io), 89 P71/PPG1 (io), 90 P72/PPG2 (io), 91 P73/PPG3 (io), 92 P74/PPG4/RP8 (io), 93 P75/PPG5/RP9 (io), 94 P76/PPG6/RPA (io), 95 P77/PPG7/RPB (io), 96 P80/YCO (io), 97 P81/EXCAP/YBO (io), 98 P82/EXCTL (io), 99 P83/C.ROTARY/R (io), 100 P84/H.AMP SW/G (io), 101 P85/COMP/B (io), 102 P86/EXTTRG (io), 103 P87/DPG (io), 104 DFG (in), 105 VIDEO FF (out), 106 AUDIO FF (out), 107 DRM PWM (out), 108 CAP PWM (out), 109 VPULSE (out), 111 CSYNC (in)
part B pins: 1 SVSS (power), 10 SVCC (power), 18 OVCC (power), 20 OVSS (power), 23 AVSS (power), 36 AVCC (power), 56 VCC (power), 57 VSS (power), 79 VSS (power), 81 VCL, 110 VSS (power), 112 VCC (power)

## HD64F2210CUFP
designator U?
Flash memory H8S/2200 Series, 2212 Group MCU, 32K ROM, 8K RAM, FP-64E Pkg; Published: 28-Aug-2009; DatasheetVersion: Rev.7.00, Dec-2008; PackageVersion: Sep-2005; PackageReference: PLQP0064KC-A; Publisher: Altium Limited; PackageDescription: 64-Pin Plastic Low Profile QFP, 10 x 10 x 1.45 mm Body, 0.5 mm Pitch; Code_JEITA: P-LQFP64-10x10-0.50; Code_IPC: SQFP50P1200X1200-64; ComponentLink1Description: Manufacturer Link; ComponentLink1URL: http://sg.renesas.com/fmwk.jsp?cnt=h8s_family_landing.jsp&fp=/products/mpumcu/h8s_family/; ComponentLink2Description: Datasheet; ComponentLink2URL: http://documentation.renesas.com/eng/products/mpumcu/rej09b0074_h8s2212.pdf; ComponentLink3Description: Packaging Specification; ComponentLink3URL: http://sg.renesas.com/media/products/common_info/package/pdf/ic/code/plqp0064kc_a.pdf
footprint PLQP0064KC-A_N (Shrink QFP, 64-Leads, Body 10x10mm, Pitch 0.5mm, IPC Medium Density)
footprint PLQP0064KC-A_L (Shrink QFP, 64-Leads, Body 10x10mm, Pitch 0.5mm, IPC High Density)
footprint PLQP0064KC-A_M (Shrink QFP, 64-Leads, Body 10x10mm, Pitch 0.5mm, IPC Low Density)
part A pins: 1 P10/TIOCA0 (io), 2 P11/TIOCB0 (io), 3 P12/TIOCC0/TCLKA (io), 4 P13/TIOCD0/TCLKB (io), 5 P14/TIOCA1/~{IRQ0} (io), 6 P15/TIOCB1/TCLKC (io), 7 P16/TIOCA2/~{IRQ1} (io), 8 P17/TIOCB2/TCLKD (io), 9 MD0 (in), 10 MD1 (in), 11 MD2 (in), 12 USPND/TMOW (out), 13 P30/TXD0 (io), 14 P31/RXD0 (io), 15 P32/SCK0/~{IRQ4} (io), 16 PG1/~{IRQ7} (io), 17 VBUS (in), 18 P36(PUPD+) (io), 20 USD+ (out), 21 USD- (out), 23 P97/AN15 (io), 24 P96/AN14 (io), 25 VREF (in), 26 P43/AN3 (io), 27 P42/AN2 (io), 28 P41/AN1 (io), 29 P40/AN0 (io), 31 ~{UBPM} (in), 33 OSC2 (in), 34 OSC1 (in), 35 ~{STBY} (in), 36 ~{RES} (in), 38 XTAL (in), 39 EXTAL (in), 41 PE0 (io), 42 PE1 (io), 43 PE2 (io), 44 PE3 (io), 45 PE4 (io), 46 PE5 (io), 47 PE6 (io), 48 PE7 (io), 49 FWE (in), 50 NMI (in), 51 EMLE (in), 52 P77/TDO (io), 53 P76/TCK (io), 54 P75/TMS (io), 55 ~{TRST}/NC, 56 PG0/TDI (io), 58 PF7/F (io), 60 PF3/~{ADTRG}/~{IRQ3} (io), 61 PF0/~{IRQ2} (io), 62 PA3/SCK2 (io), 63 PA2/RXD2 (io), 64 PA1/TXD2 (io)
part B pins: 19 DRVCC (power), 22 DRVSS (power), 30 PLLVSS (power), 32 PLLVCC (power), 37 VSS (power), 40 VCC (power), 57 VCC (power), 59 VSS (power)